# Altium schematic symbol library MainSchlib.SchLib: 236 symbols (part 1 of 2)
Pins are listed as number, name and electrical type; pins without a type are passive.

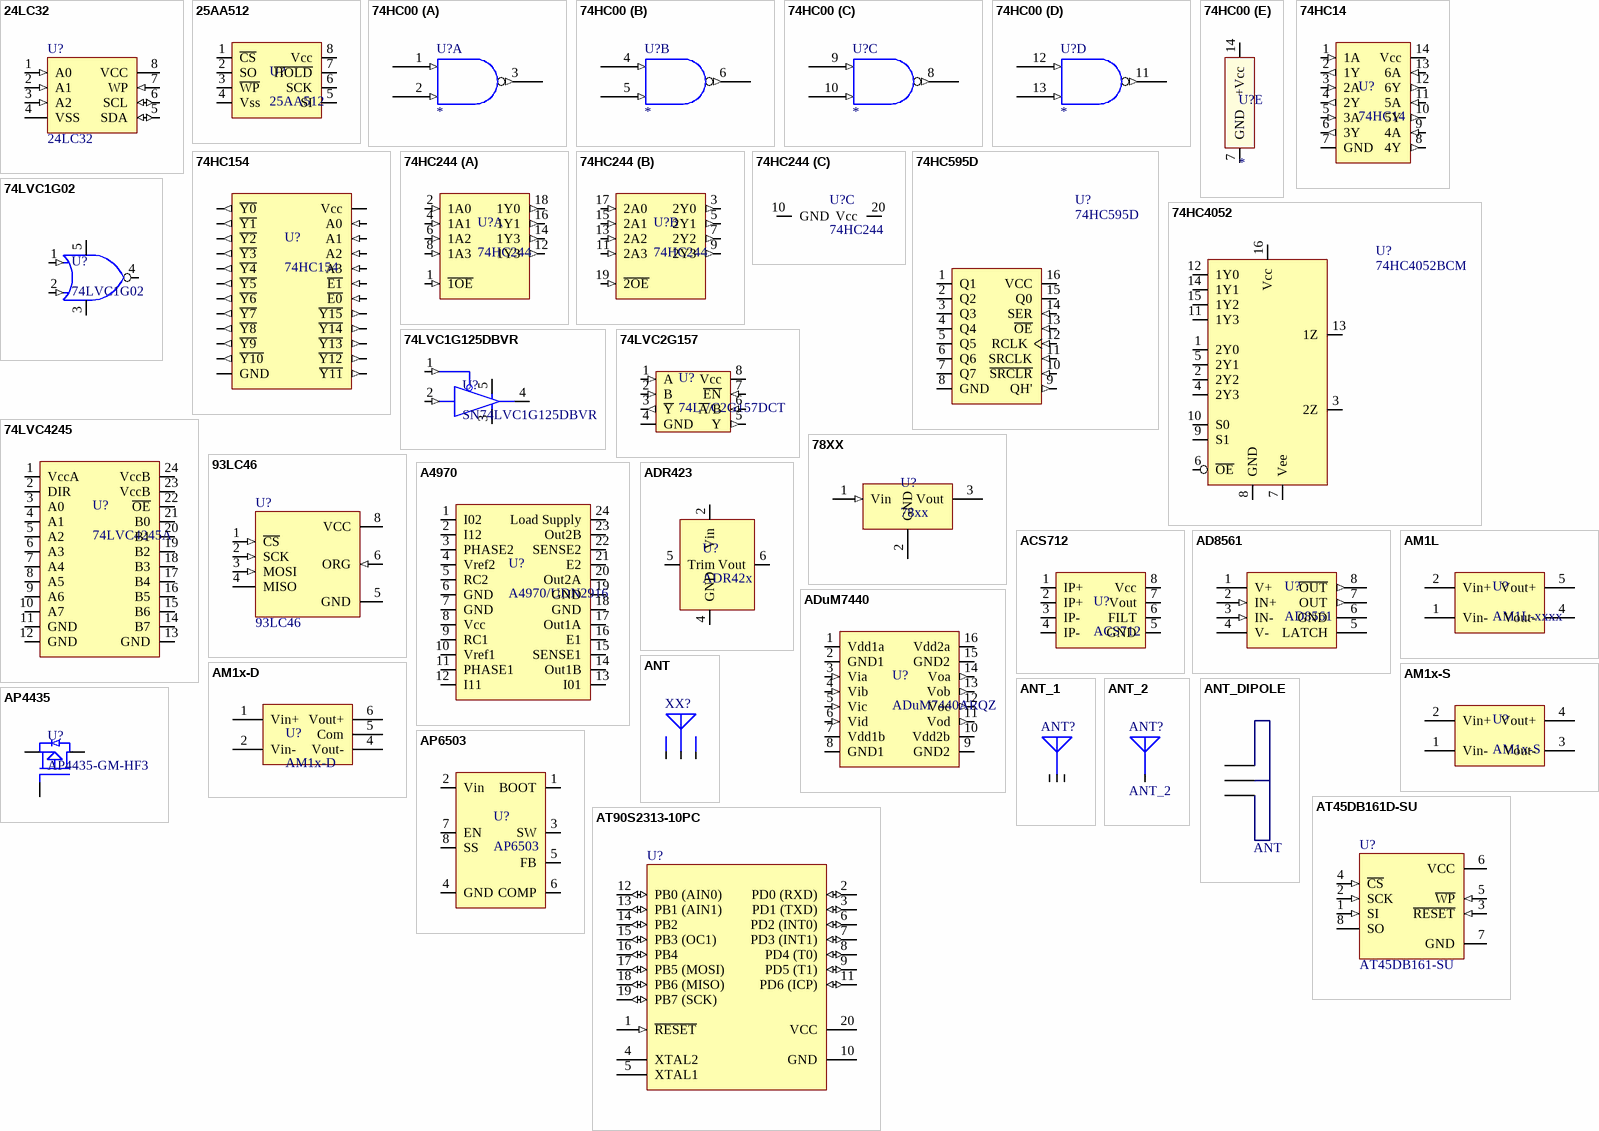
[diagram p0: symbols 24LC32 to AT90S2313-10PC]

## 24LC32
designator U?
footprint IC_DIP-8 (DIP8)
pins: 1 A0 (in), 2 A1 (in), 3 A2 (in), 4 VSS (power), 5 SDA (io), 6 SCL (io), 7 WP (in), 8 VCC (power)

## 25AA512
designator U?
512 Kbit SPI Bus Serial EEPROM
footprint IC_SO-8
pins: 1 ~{CS}, 2 SO, 3 ~{WP}, 4 Vss, 5 SI, 6 SCK, 7 ~{HOLD}, 8 Vcc

## 74HC00
designator U?
footprint IC_SO-14
footprint IC_DIP-14 (DIP14)
part A pins: 1 (in), 2 (in), 3 (out)
part B pins: 4 (in), 5 (in), 6 (out)
part C pins: 8 (out), 9 (in), 10 (in)
part D pins: 11 (out), 12 (in), 13 (in)
part E pins: 7 GND (power), 14 +Vcc (power) "VCC"

## 74HC14
designator U?
footprint IC_SO-14
footprint IC_DIP-14 (DIP14)
pins: 1 1A (in), 2 1Y (out), 3 2A (in), 4 2Y (out), 5 3A (in), 6 3Y (out), 7 GND (power), 8 4Y (out), 9 4A (in), 10 5Y (out), 11 5A (in), 12 6Y (out), 13 6A (in), 14 Vcc (power)

## 74HC154
designator U?
4-to-16 decoder/demultiplexer
footprint IC_SOIC-24 (for A4970)
footprint IC_DIP-24_600 (DIP24 socket)
pins: 1 ~{Y0} (out), 2 ~{Y1} (out), 3 ~{Y2} (out), 4 ~{Y3} (out), 5 ~{Y4} (out), 6 ~{Y5} (out), 7 ~{Y6} (out), 8 ~{Y7} (out), 9 ~{Y8} (out), 10 ~{Y9} (out), 11 ~{Y10} (out), 12 GND (power), 13 ~{Y11} (out), 14 ~{Y12} (out), 15 ~{Y13} (out), 16 ~{Y14} (out), 17 ~{Y15} (out), 18 ~{E0} (in), 19 ~{E1} (in), 20 A3 (in), 21 A2 (in), 22 A1 (in), 23 A0 (in), 24 Vcc

## 74HC244
designator U?
footprint IC_SO-20
footprint IC_DIP-20 (DIP20 socket)
part A pins: 1 ~{1OE} (in), 2 1A0 (in), 4 1A1 (in), 6 1A2 (in), 8 1A3 (in), 12 1Y3 (out), 14 1Y3 (out), 16 1Y1 (out), 18 1Y0 (out)
part B pins: 3 2Y0 (out), 5 2Y1 (out), 7 2Y2 (out), 9 2Y3 (out), 11 2A3 (in), 13 2A2 (in), 15 2A1 (in), 17 2A0 (in), 19 ~{2OE} (in)
part C pins: 10 GND (power), 20 Vcc (oe)

## 74HC595D
designator U?
8-Bit Shift Register with 3-State Output Registers; Text Field1: Power pins are hidden; Text Field2: Published 8-Jun-2000
footprint IC_DIP-16 (DIP16)
footprint IC_SO-16
pins: 1 Q1 (hiz), 2 Q2 (hiz), 3 Q3 (hiz), 4 Q4 (hiz), 5 Q5 (hiz), 6 Q6 (hiz), 7 Q7 (hiz), 8 GND (power), 9 QH' (out), 10 ~{SRCLR} (in), 11 SRCLK (in), 12 RCLK (in), 13 ~{OE} (in), 14 SER (in), 15 Q0 (hiz), 16 VCC (power)

## 74HC4052
designator U?, comment 74HC4052BCM
footprint IC_SO-16
footprint IC_DIP-16 (DIP16)
pins: 1 2Y0, 2 2Y2, 3 2Z, 4 2Y3, 5 2Y1, 6 ~{OE}, 7 Vee, 8 GND, 9 S1, 10 S0, 11 1Y3, 12 1Y0, 13 1Z, 14 1Y1, 15 1Y2, 16 Vcc

## 74LVC1G02
designator U?
footprint IC_SOT353-1 (5-pin, for 74LVC1G02)
pins: 1 (in), 2 (in), 3 GND, 4, 5 Vcc

## 74LVC1G125DBVR
designator U?, comment SN74LVC1G125DBVR
Single Buffer/Line driver
footprint IC_SOT23-5 (for MCP1802)
pins: 1 ~{OE} (in), 2 IN (in), 3 GND, 4 OUT, 5 Vcc

## 74LVC2G157
designator U?, comment 74LVC2G157DCT
footprint IC_SSOP8 (SSOP8)
pins: 1 A (in), 2 B (in), 3 ~{Y} (out), 4 GND (power), 5 Y (out), 6 ~{A}/B (in), 7 ~{EN} (in), 8 Vcc (power)

## 74LVC4245
designator U?, comment 74LVC4245A
octal dual-supply translating transceiver
footprint IC_SOIC-24 (for A4970)
pins: 1 VccA, 2 DIR, 3 A0, 4 A1, 5 A2, 6 A3, 7 A4, 8 A5, 9 A6, 10 A7, 11 GND, 12 GND, 13 GND, 14 B7, 15 B6, 16 B5, 17 B4, 18 B3, 19 B2, 20 B1, 21 B0, 22 ~{OE}, 23 VccB, 24 VccB

## 78XX
designator U?, comment 78xx
footprint TRANS_TO-220-HS_M
footprint IC_TO-92 (For 78Lxx)
pins: 1 Vin (in), 2 GND, 3 Vout (power)

## 93LC46
designator U?
footprint IC_SO-8
pins: 1 ~{CS} (in), 2 SCK (in), 3 MOSI (in), 4 MISO (hiz), 5 GND (power), 6 ORG (in), 8 VCC (power)

## A4970
designator U?, comment A4970/UDN2916
footprint IC_SOIC-24 (for A4970)
pins: 1 I02, 2 I12, 3 PHASE2, 4 Vref2, 5 RC2, 6 GND, 7 GND, 8 Vcc, 9 RC1, 10 Vref1, 11 PHASE1, 12 I11, 13 I01, 14 Out1B, 15 SENSE1, 16 E1, 17 Out1A, 18 GND, 19 GND, 20 Out2A, 21 E2, 22 SENSE2, 23 Out2B, 24 Load Supply

## ACS712
designator U?
Hall-effect current sensor
footprint IC_SO-8
pins: 1 IP+, 2 IP+, 3 IP-, 4 IP-, 5 GND, 6 FILT, 7 Vout, 8 Vcc

## AD8561
designator U?
footprint IC_SO-8
pins: 1 V+, 2 IN+ (in), 3 IN- (in), 4 V- (power), 5 LATCH, 6 GND (power), 7 OUT (out), 8 ~{OUT} (out)

## ADR423
designator U?, comment ADR42x
Precision voltage reference
footprint IC_SO-8
pins: 2 Vin, 4 GND, 5 Trim, 6 Vout

## ADuM7440
designator U?, comment ADuM7440ARQZ
footprint IC_QSOP-16 (For ADuM7440)
pins: 1 Vdd1a (power), 2 GND1 (power), 3 Via (in), 4 Vib (in), 5 Vic (in), 6 Vid (in), 7 Vdd1b (power), 8 GND1 (power), 9 GND2 (power), 10 Vdd2b (power), 11 Vod (out), 12 Voc (out), 13 Vob (out), 14 Voa (out), 15 GND2 (power), 16 Vdd2a (power)

## AM1L
designator U?, comment AM1L-xxxx
footprint DCDC_AM1L
pins: 1 Vin- (power), 2 Vin+ (power), 4 Vout- (power), 5 Vout+ (power)

## AM1x-D
designator U?
footprint DCDC_AM1D-D (Aimtec AM1x-D and AM2x-D)
pins: 1 Vin+ (power), 2 Vin- (power), 4 Vout- (power), 5 Com (power), 6 Vout+ (power)

## AM1x-S
designator U?
footprint DCDC_AM1S (For AM1S DC/DC)
pins: 1 Vin- (power), 2 Vin+ (power), 3 Vout- (power), 4 Vout+ (power)

## ANT
designator XX?
footprint ANT_FP (Model Description)
footprint ANT_FP_SOLDER_28mil
footprint Model Name (Footprint not found)
footprint CON_SMA_ANGLE (Comet: SMA F R/A PCB)
pins: 1 ANT, 2 GND, 3 GND2

## ANT_1
designator ANT?
footprint PCB_ANTENNA_MRF24J40 (PCB Inverted-F antenna)
footprint ANT_PCB_MRF24J40 (PCB Inverted-F antenna)
pins: 1 ANT, 2 ANT, 3 ANT

## ANT_2
designator ANT?
footprint MISC_PAD-36/65
footprint ANT_MRF24J40MA
pins: 1 ANT

## ANT_DIPOLE
designator ANT  (value not drawn)
Folded dipole antanna for CC2420
footprint ANT_PCB_DIPOLE (for CC2420)
pins: 1, 2, 3

## AP4435
designator U?, comment AP4435-GM-HF3
P-Channel enchanced MOSFET
footprint IC_SO-8
pins: 1 S, 2 S, 3 S, 4 G, 5 D, 6 D, 7 D, 8 D

## AP6503
designator U?
Buck Converter - RT8250
footprint IC_SO-8-EP
pins: 1 BOOT, 2 Vin, 3 SW, 4 GND, 5 FB, 6 COMP, 7 EN, 8 SS

## AT45DB161D-SU
designator U?, comment AT45DB161-SU
footprint IC_SO-8X
pins: 1 SI (in), 2 SCK (in), 3 ~{RESET} (in), 4 ~{CS} (in), 5 ~{WP} (in), 6 VCC (power), 7 GND (power), 8 SO (hiz)

## AT90S2313-10PC
designator U?
8-Bit AVR Microcontroller with 2K Bytes of In-System Programmable Flash Memory; Published: 17-Sep-2003; LatestRevisionDate: 04-Mar-2005; LatestRevisionNote: Stylized 3D Model Added.; DatasheetVersion: 0839I-AVR-06/02; PackageVersion: Aug-1999; PackageReference: 20P3; Publisher: Altium Limited; PackageDescription: DIP; 20 Leads; Row Spacing 7.62 mm; Pitch 2.54 mm; Code_JEDEC: MS-001-AD; ComponentLink1Description: Manufacturer Link; ComponentLink1URL: http://www.atmel.com; ComponentLink2Description: Datasheet; ComponentLink2URL: http://www.atmel.com/dyn/resources/prod_documents/doc0839.pdf
footprint IC_DIP-20 (DIP20 socket)
pins: 1 ~{RESET} (in), 2 PD0 (RXD) (io), 3 PD1 (TXD) (io), 4 XTAL2, 5 XTAL1, 6 PD2 (INT0) (io), 7 PD3 (INT1) (io), 8 PD4 (T0) (io), 9 PD5 (T1) (io), 10 GND (power), 11 PD6 (ICP) (io), 12 PB0 (AIN0) (io), 13 PB1 (AIN1) (io), 14 PB2 (io), 15 PB3 (OC1) (io), 16 PB4 (io), 17 PB5 (MOSI) (io), 18 PB6 (MISO) (io), 19 PB7 (SCK) (io), 20 VCC (power)

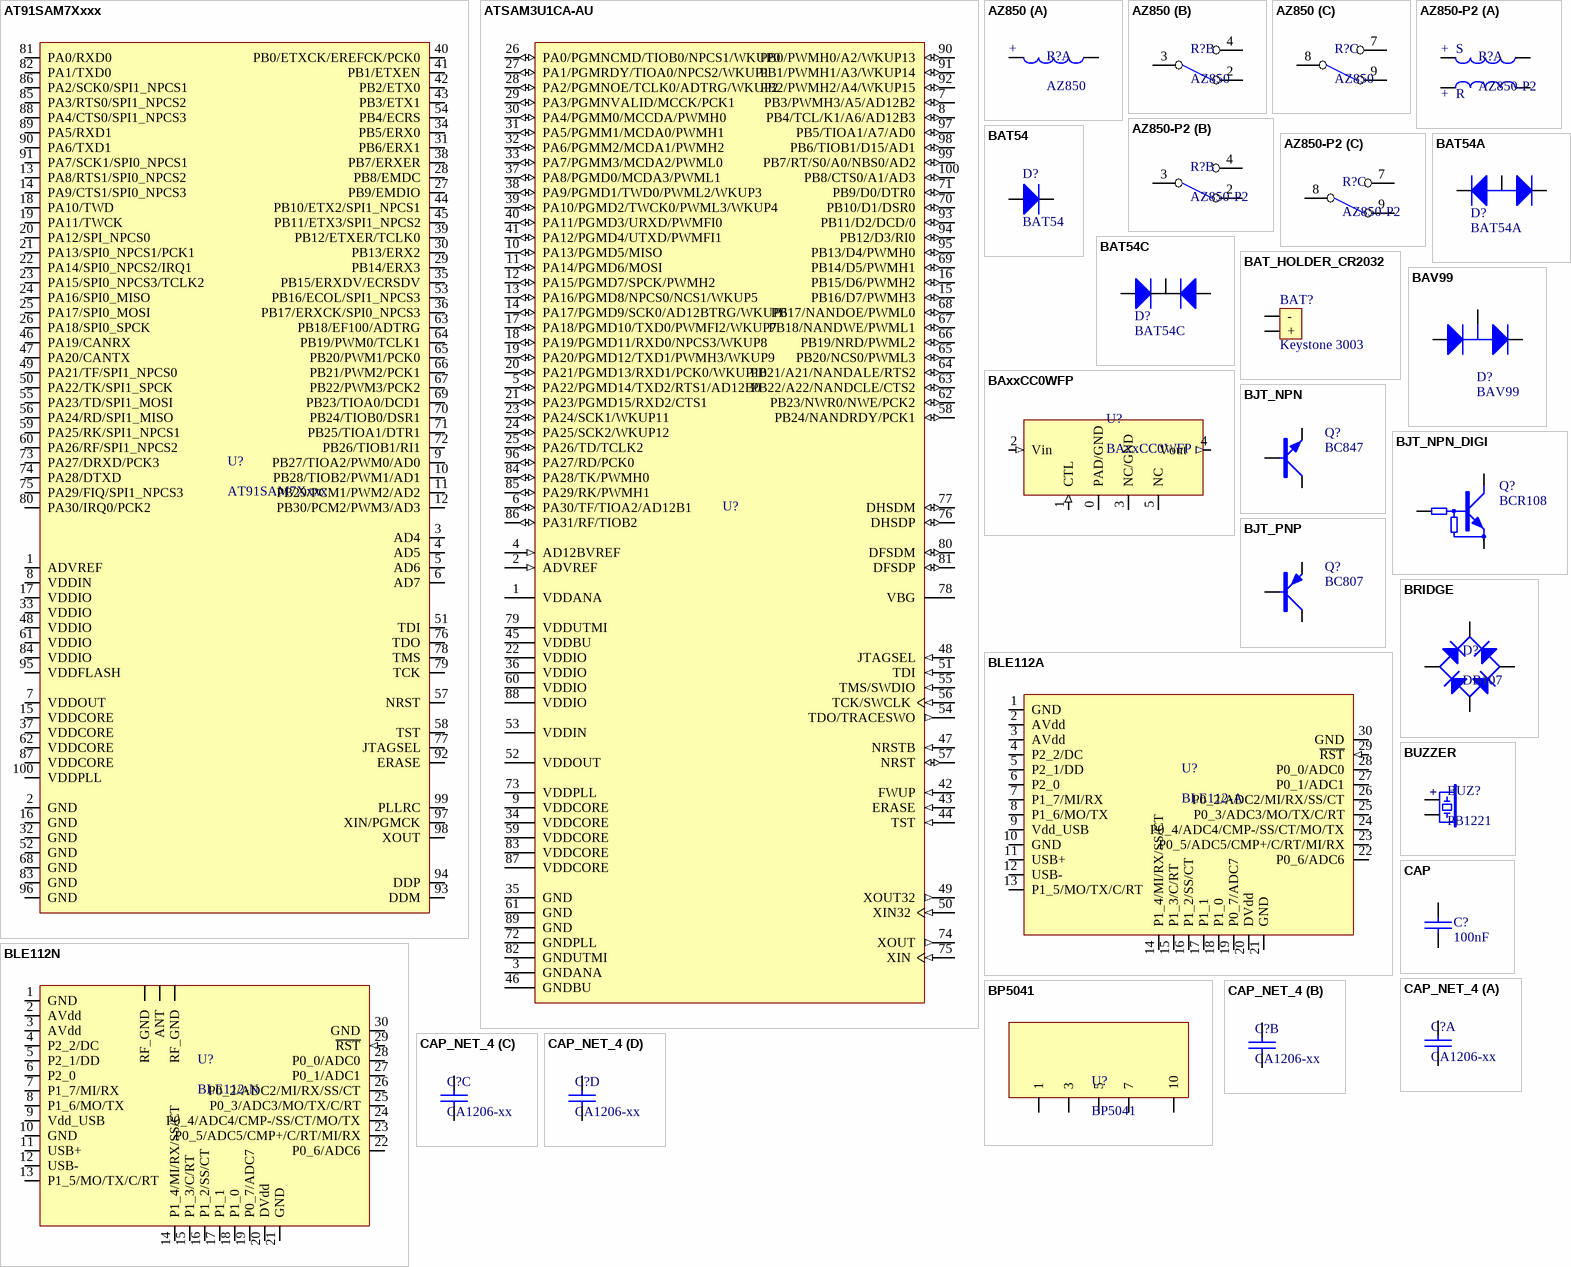
[diagram p1: symbols AT91SAM7Xxxx to CAP_NET_4]

## AT91SAM7Xxxx
designator U?
32-bit ARM7 MUC
footprint IC_LQFP-100 (DM9000/AT91SAM7X)
pins: 1 ADVREF (power), 2 GND (power), 3 AD4 (power), 4 AD5 (power), 5 AD6 (power), 6 AD7 (power), 7 VDDOUT (power), 8 VDDIN (power), 9 PB27/TIOA2/PWM0/AD0 (power), 10 PB28/TIOB2/PWM1/AD1 (power), 11 PB29/PCM1/PWM2/AD2 (power), 12 PB30/PCM2/PWM3/AD3 (power), 13 PA8/RTS1/SPI0_NPCS2 (power), 14 PA9/CTS1/SPI0_NPCS3 (power), 15 VDDCORE (power), 16 GND (power), 17 VDDIO (power), 18 PA10/TWD (power), 19 PA11/TWCK (power), 20 PA12/SPI_NPCS0 (power), 21 PA13/SPI0_NPCS1/PCK1 (power), 22 PA14/SPI0_NPCS2/IRQ1 (power), 23 PA15/SPI0_NPCS3/TCLK2 (power), 24 PA16/SPI0_MISO (power), 25 PA17/SPI0_MOSI (power), 26 PA18/SPI0_SPCK (power), 27 PB9/EMDIO (power), 28 PB8/EMDC (power), 29 PB14/ERX3 (power), 30 PB13/ERX2 (power), 31 PB6/ERX1 (power), 32 GND (power), 33 VDDIO (power), 34 PB5/ERX0 (power), 35 PB15/ERXDV/ECRSDV (power), 36 PB17/ERXCK/SPI0_NPCS3 (power), 37 VDDCORE (power), 38 PB7/ERXER (power), 39 PB12/ETXER/TCLK0 (power), 40 PB0/ETXCK/EREFCK/PCK0 (power), 41 PB1/ETXEN (power), 42 PB2/ETX0 (power), 43 PB3/ETX1 (power), 44 PB10/ETX2/SPI1_NPCS1 (power), 45 PB11/ETX3/SPI1_NPCS2 (power), 46 PA19/CANRX (power), 47 PA20/CANTX (power), 48 VDDIO (power), 49 PA21/TF/SPI1_NPCS0 (power), 50 PA22/TK/SPI1_SPCK (power), 51 TDI (power), 52 GND (power), 53 PB16/ECOL/SPI1_NPCS3 (power), 54 PB4/ECRS (power), 55 PA23/TD/SPI1_MOSI (power), 56 PA24/RD/SPI1_MISO (power), 57 NRST (power), 58 TST (power), 59 PA25/RK/SPI1_NPCS1 (power), 60 PA26/RF/SPI1_NPCS2 (power), 61 VDDIO (power), 62 VDDCORE (power), 63 PB18/EF100/ADTRG (power), 64 PB19/PWM0/TCLK1 (power), 65 PB20/PWM1/PCK0 (power), 66 PB21/PWM2/PCK1 (power), 67 PB22/PWM3/PCK2 (power), 68 GND (power), 69 PB23/TIOA0/DCD1 (power), 70 PB24/TIOB0/DSR1 (power), 71 PB25/TIOA1/DTR1 (power), 72 PB26/TIOB1/RI1 (power), 73 PA27/DRXD/PCK3 (power), 74 PA28/DTXD (power), 75 PA29/FIQ/SPI1_NPCS3 (power), 76 TDO (power), 77 JTAGSEL (power), 78 TMS (power), 79 TCK (power), 80 PA30/IRQ0/PCK2 (power), 81 PA0/RXD0 (power), 82 PA1/TXD0 (power), 83 GND (power), 84 VDDIO (power), 85 PA3/RTS0/SPI1_NPCS2 (power), 86 PA2/SCK0/SPI1_NPCS1 (power), 87 VDDCORE (power), 88 PA4/CTS0/SPI1_NPCS3 (power), 89 PA5/RXD1 (power), 90 PA6/TXD1 (power), 91 PA7/SCK1/SPI0_NPCS1 (power), 92 ERASE (power), 93 DDM (power), 94 DDP (power), 95 VDDFLASH (power), 96 GND (power), 97 XIN/PGMCK (power), 98 XOUT (power), 99 PLLRC (power), 100 VDDPLL (power)

## ATSAM3U1CA-AU
designator U?
AT91 ARM Cortex-M3 32-bit Microcontroller, 64KB Flash, 20KB SRAM, 57 User I/Os, 3USARTs, 100-Pin LQFP, Industrial Grade (-40°C to 85°C), Pb-Free; Published: 20-Sep-2010; DatasheetVersion: revC, Apr-2010; PackageVersion: Apr-2006; PackageReference: LQFP100; Publisher: Altium Limited; PackageDescription: 100-Pin Thin Quad Flat Pack 0.5 mm Pitch; Supplier 1: Digi-Key; Supplier Part Number 1: ATSAM3U1CA-AU-ND; Supplier 2: Mouser; Supplier Part Number 2: 556-ATSAM3U1CA-AU; Code_JEDEC: MS-026-BED; ComponentLink1Description: Manufacturer Link; ComponentLink1URL: http://www.atmel.com/products/AT91/default.asp?; ComponentLink2Description: SAM3U Series Datasheet; ComponentLink2URL: http://www.atmel.com/dyn/resources/prod_documents/doc6430.pdf; ComponentLink3Description: SAM3U Series Summary; ComponentLink3URL: http://www.atmel.com/dyn/resources/prod_documents/6430s.pdf; ComponentLink4Description: Atmel.com Home; ComponentLink4URL: http://www.atmel.com
footprint IC_LQFP-100 (DM9000/AT91SAM7X)
pins: 1 VDDANA (power), 2 ADVREF (in), 3 GNDANA (power), 4 AD12BVREF (in), 5 PA22/PGMD14/TXD2/RTS1/AD12B0 (io), 6 PA30/TF/TIOA2/AD12B1 (io), 7 PB3/PWMH3/A5/AD12B2 (io), 8 PB4/TCL/K1/A6/AD12B3 (io), 9 VDDCORE (power), 10 PA13/PGMD5/MISO (io), 11 PA14/PGMD6/MOSI (io), 12 PA15/PGMD7/SPCK/PWMH2 (io), 13 PA16/PGMD8/NPCS0/NCS1/WKUP5 (io), 14 PA17/PGMD9/SCK0/AD12BTRG/WKUP6 (io), 15 PB16/D7/PWMH3 (io), 16 PB15/D6/PWMH2 (io), 17 PA18/PGMD10/TXD0/PWMFI2/WKUP7 (io), 18 PA19/PGMD11/RXD0/NPCS3/WKUP8 (io), 19 PA20/PGMD12/TXD1/PWMH3/WKUP9 (io), 20 PA21/PGMD13/RXD1/PCK0/WKUP10 (io), 21 PA23/PGMD15/RXD2/CTS1 (io), 22 VDDIO (power), 23 PA24/SCK1/WKUP11 (io), 24 PA25/SCK2/WKUP12 (io), 25 PA26/TD/TCLK2 (io), 26 PA0/PGMNCMD/TIOB0/NPCS1/WKUP0 (io), 27 PA1/PGMRDY/TIOA0/NPCS2/WKUP1 (io), 28 PA2/PGMNOE/TCLK0/ADTRG/WKUP2 (io), 29 PA3/PGMNVALID/MCCK/PCK1 (io), 30 PA4/PGMM0/MCCDA/PWMH0 (io), 31 PA5/PGMM1/MCDA0/PWMH1 (io), 32 PA6/PGMM2/MCDA1/PWMH2 (io), 33 PA7/PGMM3/MCDA2/PWML0 (io), 34 VDDCORE (power), 35 GND (power), 36 VDDIO (power), 37 PA8/PGMD0/MCDA3/PWML1 (io), 38 PA9/PGMD1/TWD0/PWML2/WKUP3 (io), 39 PA10/PGMD2/TWCK0/PWML3/WKUP4 (io), 40 PA11/PGMD3/URXD/PWMFI0 (io), 41 PA12/PGMD4/UTXD/PWMFI1 (io), 42 FWUP (in), 43 ERASE (in), 44 TST (in), 45 VDDBU (power), 46 GNDBU (power), 47 NRSTB (in), 48 JTAGSEL (in), 49 XOUT32 (out), 50 XIN32 (in), 51 TDI (in), 52 VDDOUT (power), 53 VDDIN (power), 54 TDO/TRACESWO (out), 55 TMS/SWDIO (in), 56 TCK/SWCLK (in), 57 NRST (io), 58 PB24/NANDRDY/PCK1 (io), 59 VDDCORE (power), 60 VDDIO (power), 61 GND (power), 62 PB23/NWR0/NWE/PCK2 (io), 63 PB22/A22/NANDCLE/CTS2 (io), 64 PB21/A21/NANDALE/RTS2 (io), 65 PB20/NCS0/PWML3 (io), 66 PB19/NRD/PWML2 (io), 67 PB18/NANDWE/PWML1 (io), 68 PB17/NANDOE/PWML0 (io), 69 PB14/D5/PWMH1 (io), 70 PB10/D1/DSR0 (io), 71 PB9/D0/DTR0 (io), 72 GNDPLL (power), 73 VDDPLL (power), 74 XOUT (out), 75 XIN (in), 76 DHSDP (io), 77 DHSDM (io), 78 VBG, 79 VDDUTMI (power), 80 DFSDM (io), 81 DFSDP (io), 82 GNDUTMI (power), 83 VDDCORE (power), 84 PA28/TK/PWMH0 (io), 85 PA29/RK/PWMH1 (io), 86 PA31/RF/TIOB2 (io), 87 VDDCORE (power), 88 VDDIO (power), 89 GND (power), 90 PB0/PWMH0/A2/WKUP13 (io), 91 PB1/PWMH1/A3/WKUP14 (io), 92 PB2/PWMH2/A4/WKUP15 (io), 93 PB11/D2/DCD/0 (io), 94 PB12/D3/RI0 (io), 95 PB13/D4/PWMH0 (io), 96 PA27/RD/PCK0 (io), 97 PB5/TIOA1/A7/AD0 (io), 98 PB6/TIOB1/D15/AD1 (io), 99 PB7/RT/S0/A0/NBS0/AD2 (io), 100 PB8/CTS0/A1/AD3 (io)

## AZ850
designator R?
bi-stable relay
footprint RELAY_AZ850 (AZ850 (and others) relay)
part A pins: 1, 10
part B pins: 2, 3, 4
part C pins: 7, 8, 9
part A text: +

## AZ850-P2
designator R?
bi-stable relay
footprint RELAY_AZ850 (AZ850 (and others) relay)
part A pins: 1, 5, 6, 10
part B pins: 2, 3, 4
part C pins: 7, 8, 9
part A text: +; S; R

## BAT54
designator D?
SOT23 Silicon Planar High-Speed Switching Series Diode Pair
footprint TRANS_SOT-23
pins: 1 A, 3 C

## BAT54A
designator D?
SOT23 Silicon Planar High-Speed Switching Series Diode Pair; Manufacturer: Zetex; Class: Discrete; SubClass: Diode - Switching; Published: 8/06/2000; Publisher: Altium Hobart Technology Centre
footprint TRANS_SOT-23
pins: 1 C1, 2 C2, 3 A

## BAT54C
designator D?
SOT23 Silicon Planar High-Speed Switching Series Diode Pair
footprint TRANS_SOT-23
pins: 1 A1, 2 A2, 3 C

## BAT_HOLDER_CR2032
designator BAT?, comment Keystone 3003
Battery holder
footprint MISC_Keystone3003 (Holder for a CR2032)
pins: 1 - (power), 2 + (power)

## BAV99
designator D?
SOT23 Silicon Planar High-Speed Switching Series Diode Pair; Manufacturer: Zetex; Class: Discrete; SubClass: Diode - Switching; Published: 8/06/2000; Publisher: Altium Hobart Technology Centre
footprint TRANS_SOT-23
pins: 1 A, 2 K, 3 C

## BAxxCC0WFP
designator U?
ROHM LDO
footprint IC_TO-252-5
pins: 0 PAD/GND, 1 CTL (in), 2 Vin (in), 3 NC/GND, 4 Vout (out), 5 NC

## BJT_NPN
designator Q?, comment BC847
NPN Transistor
footprint TRANS_SOT-23
footprint TRANS_SOT223 (SOT223 - transistor package)
pins: 1 B, 2 E, 3 C

## BJT_NPN_DIGI
designator Q?, comment BCR108
NPN Digital Transistor
footprint TRANS_SOT-23
pins: 1 B, 2 E, 3 C

## BJT_PNP
designator Q?, comment BC807
PNP Transistor
footprint TRANS_SOT-23
footprint TRANS_SOT223 (SOT223 - transistor package)
pins: 1 B, 2 E, 3 C

## BLE112A
designator U?, comment BLE112-A
Bluetooth module
footprint MISC_BLE112A (Bluetooth module)
pins: 1 GND (power), 2 AVdd (power), 3 AVdd (power), 4 P2_2/DC (io), 5 P2_1/DD (io), 6 P2_0 (io), 7 P1_7/MI/RX (io), 8 P1_6/MO/TX (io), 9 Vdd_USB (power), 10 GND (power), 11 USB+, 12 USB-, 13 P1_5/MO/TX/C/RT (io), 14 P1_4/MI/RX/SS/CT (io), 15 P1_3/C/RT (io), 16 P1_2/SS/CT (io), 17 P1_1 (io), 18 P1_0 (io), 19 P0_7/ADC7 (io), 20 DVdd (power), 21 GND (power), 22 P0_6/ADC6 (io), 23 P0_5/ADC5/CMP+/C/RT/MI/RX (io), 24 P0_4/ADC4/CMP-/SS/CT/MO/TX (io), 25 P0_3/ADC3/MO/TX/C/RT (io), 26 P0_2/ADC2/MI/RX/SS/CT (io), 27 P0_1/ADC1 (io), 28 P0_0/ADC0 (io), 29 ~{RST} (in), 30 GND (power)

## BLE112N
designator U?, comment BLE112-N
Bluetooth module
footprint MISC_BLE112N (Bluetooth module)
pins: 1 GND (power), 2 AVdd (power), 3 AVdd (power), 4 P2_2/DC (io), 5 P2_1/DD (io), 6 P2_0 (io), 7 P1_7/MI/RX (io), 8 P1_6/MO/TX (io), 9 Vdd_USB (power), 10 GND (power), 11 USB+, 12 USB-, 13 P1_5/MO/TX/C/RT (io), 14 P1_4/MI/RX/SS/CT (io), 15 P1_3/C/RT (io), 16 P1_2/SS/CT (io), 17 P1_1 (io), 18 P1_0 (io), 19 P0_7/ADC7 (io), 20 DVdd (power), 21 GND (power), 22 P0_6/ADC6 (io), 23 P0_5/ADC5/CMP+/C/RT/MI/RX (io), 24 P0_4/ADC4/CMP-/SS/CT/MO/TX (io), 25 P0_3/ADC3/MO/TX/C/RT (io), 26 P0_2/ADC2/MI/RX/SS/CT (io), 27 P0_1/ADC1 (io), 28 P0_0/ADC0 (io), 29 ~{RST} (in), 30 GND (power), 31 ANT, 32 RF_GND (power), 33 RF_GND (power)

## BP5041
designator U?
ROHM non-isolated AC/DC converter
footprint DCDC_SIP10 (for BP504x series AC/DC converters)
pins: 1, 3, 5, 7, 10

## BRIDGE
designator D?, comment DB107
footprint DIODE_BRIDGE_PTH
footprint DIODE_BRIDGE_MBS
pins: 1 AC1, 2 AC2, 3 P, 4 M

## BUZZER
designator BUZ?, comment PB1221
Buzzer
footprint MISC_PB1221 (Buzzer)
pins: 1, 2
text: +

## CAP
designator C?, comment 100nF
Capacitor
footprint 0805_1
pins: 1, 2

## CAP_NET_4
designator C?, comment CA1206-xx
footprint RES_RN_1206-4x0603
part A pins: 1, 8
part B pins: 2, 7
part C pins: 3, 6
part D pins: 4, 5

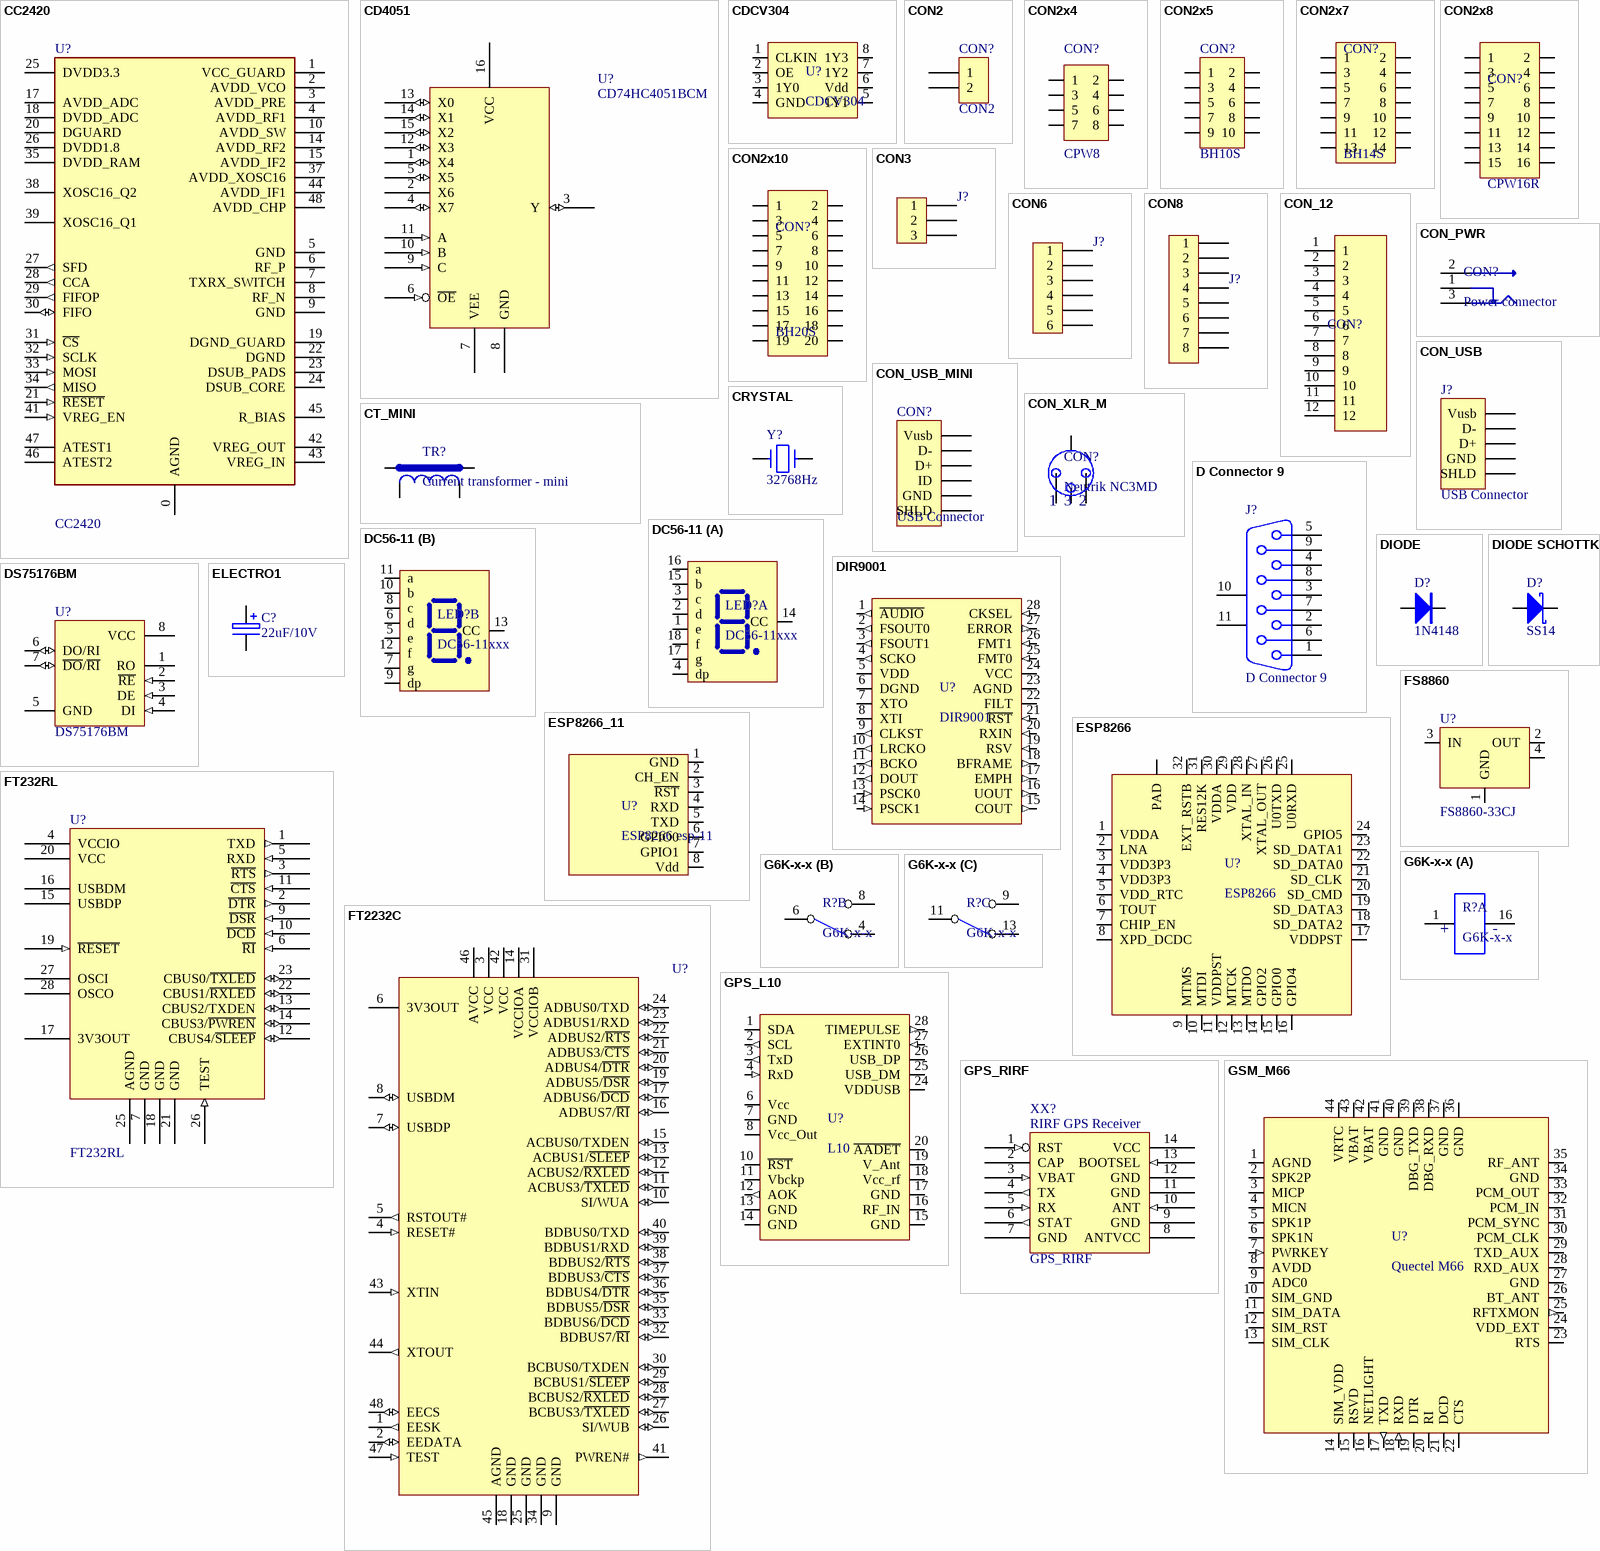
[diagram p2: symbols CC2420 to GSM_M66]

## CC2420
designator U?
ZigBee transceiver
footprint IC_QLP48 (for CC2420)
pins: 0 AGND (power), 1 VCC_GUARD (power), 2 AVDD_VCO (power), 3 AVDD_PRE (power), 4 AVDD_RF1 (power), 5 GND (power), 6 RF_P, 7 TXRX_SWITCH (power), 8 RF_N, 9 GND (power), 10 AVDD_SW (power), 14 AVDD_RF2 (power), 15 AVDD_IF2 (power), 17 AVDD_ADC (power), 18 DVDD_ADC (power), 19 DGND_GUARD (power), 20 DGUARD (power), 21 ~{RESET} (in), 22 DGND (power), 23 DSUB_PADS (power), 24 DSUB_CORE (power), 25 DVDD3.3 (power), 26 DVDD1.8 (power), 27 SFD (out), 28 CCA (out), 29 FIFOP (out), 30 FIFO (io), 31 ~{CS} (in), 32 SCLK (in), 33 MOSI (in), 34 MISO (out), 35 DVDD_RAM (power), 37 AVDD_XOSC16 (power), 38 XOSC16_Q2, 39 XOSC16_Q1, 41 VREG_EN (in), 42 VREG_OUT (power), 43 VREG_IN (power), 44 AVDD_IF1 (power), 45 R_BIAS, 46 ATEST2, 47 ATEST1, 48 AVDD_CHP (power)

## CD4051
designator U?, comment CD74HC4051BCM
footprint IC_SO-16
footprint IC_DIP-16 (DIP16)
pins: 1 X4 (io), 2 X6, 3 Y (io), 4 X7 (io), 5 X5 (io), 6 ~{OE} (in), 7 VEE, 8 GND (power), 9 C (in), 10 B (in), 11 A (in), 12 X3 (io), 13 X0 (io), 14 X1 (io), 15 X2 (io), 16 VCC

## CDCV304
designator U?
Clock driver
footprint IC_TSSOP-8
pins: 1 CLKIN, 2 OE, 3 1Y0, 4 GND, 5 1Y1, 6 Vdd, 7 1Y2, 8 1Y3

## CON2
designator CON?
Connector
footprint CON_CW2S (2.50mm connector, PCB mount, mate with CU2)
footprint CON_WS02S (2.50mm connector, PCB mount, mate with HS2)
footprint CON_TOP_2P (Weidumuller - SL 5.08/2/180B)
footprint CON_TS501_2P
pins: 1, 2

## CON2x4
designator CON?, comment CPW8
footprint CON_CPW8R (CON_CPW)
pins: 1, 2, 3, 4, 5, 6, 7, 8

## CON2x5
designator CON?, comment BH10S
BH10S-side mounted
footprint CON_BH10S_EDGE (BH-10 mounted on the board edge)
footprint CON_BH10S (BH-10)
footprint CON_2x5_1.27 (HN2X17-1.27 SMD)
pins: 1, 2, 3, 4, 5, 6, 7, 8, 9, 10

## CON2x7
designator CON?, comment BH14S
footprint CON_BH14S (BH-14)
pins: 1, 2, 3, 4, 5, 6, 7, 8, 9, 10, 11, 12, 13, 14

## CON2x8
designator CON?, comment CPW16R
footprint CON_CPW16R (CON_CPW)
pins: 1, 2, 3, 4, 5, 6, 7, 8, 9, 10, 11, 12, 13, 14, 15, 16

## CON2x10
designator CON?, comment BH20S
footprint CON_BH20S
pins: 1, 2, 3, 4, 5, 6, 7, 8, 9, 10, 11, 12, 13, 14, 15, 16, 17, 18, 19, 20

## CON3
designator J?  (value not drawn)
Connector
footprint CON_TOP_3P (Weidumuller - SL 5.08/3/180B)
pins: 1, 2, 3

## CON6
designator J?  (value not drawn)
Connector
footprint JMP_JP6 (Jumper header, 6pin)
pins: 1, 2, 3, 4, 5, 6

## CON8
designator J?  (value not drawn)
Connector
footprint CON_Multicomp_ME050-3810_8 (Side-entry header with flanges)
pins: 1, 2, 3, 4, 5, 6, 7, 8

## CON_12
designator CON?, comment CON12  (value not drawn)
footprint CON_2x6-2mm-SMD
pins: 1, 2, 3, 4, 5, 6, 7, 8, 9, 10, 11, 12

## CON_PWR
designator CON?, comment Power connector
footprint CON_PWR_DS413
pins: 1, 2, 3

## CON_USB
designator J?, comment USB Connector
footprint CON_USB_B_SMD (USB type B SMD connector)
footprint CON_USB_B_PTH (USB type B PTH connector)
footprint CON_USB_A_PTH (USB A single socket)
pins: 1 Vusb, 2 D-, 3 D+, 4 GND, 5 SHLD

## CON_USB_MINI
designator CON?, comment USB Connector
footprint CON_USB_MINI
pins: 1 Vusb, 2 D-, 3 D+, 4 ID, 5 GND, 6 SHLD

## CON_XLR_M
designator CON?, comment Neutrik NC3MD
XLR connector, PCB mount
footprint CON_NEUTRIK_NC3FDxH (XLR connector for PCB mount - female)
footprint CON_NEUTRIK_NC3MDxH (XLR connector for PCB mount - male)
pins: 1, 2, 3, 4

## CRYSTAL
designator Y?, comment 32768Hz
Crystal
footprint XTAL_HC-49
footprint XTAL_32K_SMD
footprint XTAL_32K_PTH
pins: 1, 2

## CT_MINI
designator TR?, comment Current transformer - mini
footprint MISC_CTRAF (Current transformer)
pins: 1, 2, 3, 4

## D Connector 9
designator J?
Receptacle Assembly, 9 Position, Right Angle; Manufacturer: Generic Components; Positions: 9; Published: 15/06/2001; Publisher: Altium Hobart Technology Centre; Class: Connector; Orientation: Right Angle; Gender: Receptacle
footprint CON_DSUB1.385-2H9
pins: 1, 2, 3, 4, 5, 6, 7, 8, 9, 10 MH1, 11 MH2

## DC56-11
designator LED?, comment DC56-11xxx
Dual Common-cathode LED 7-segment indicator
footprint LED_Dx56-11 (dual 7-segment LED module)
part A pins: 1 e, 2 d, 3 c, 4 dp, 14 CC, 15 b, 16 a, 17 g, 18 f
part B pins: 5 e, 6 d, 7 g, 8 c, 9 dp, 10 b, 11 a, 12 f, 13 CC

## DIODE
designator D?, comment 1N4148
Diode
footprint DIODE_MiniMELF
footprint DIODE_D400 (Diode)
pins: 1 A, 2 K

## DIODE SCHOTTKY
designator D?, comment SS14
Schottky Diode
footprint DIODE_DO-214AC (low-current diode)
pins: 1 A, 2 K

## DIR9001
designator U?
S/PDIF receiver
footprint IC_SSOP28
pins: 1 ~{AUDIO} (out), 2 FSOUT0 (out), 3 FSOUT1 (out), 4 SCKO (out), 5 VDD (power), 6 DGND (power), 7 XTO, 8 XTI, 9 CLKST (out), 10 LRCKO (out), 11 BCKO (out), 12 DOUT (out), 13 PSCK0 (in), 14 PSCK1 (in), 15 COUT (out), 16 UOUT (out), 17 EMPH (out), 18 BFRAME (out), 19 RSV (in), 20 RXIN (in), 21 ~{RST} (in), 22 FILT, 23 AGND (power), 24 VCC (power), 25 FMT0 (in), 26 FMT1 (in), 27 ERROR (out), 28 CKSEL (in)

## DS75176BM
designator U?
Multipoint RS-485/RS-422 Transceiver; Manufacturer: National Semiconductor; Class: Interface; SubClass: Line Transceiver; Published: 15/04/2002; Publisher: Altium Hobart Technology Centre
footprint IC_SO-8
footprint IC_DIP-8 (DIP8)
pins: 1 RO (hiz), 2 ~{RE} (in), 3 DE (in), 4 DI (in), 5 GND (power), 6 DO/RI (io), 7 ~{DO}/~{RI} (io), 8 VCC (power)

## ELECTRO1
designator C?, comment 22uF/10V
Electrolytic Capacitor
footprint CAP_EC8x16 (1000uF/6.3V;1000uF/10V;1000uF/16V;470uF/25V;220uF/35V;100uF/50V;100uF/63V;33uF/100V;4.7uF/160V;3.3uF/200V;2.2uF/250V;1uF/400V;1uF/450V)
pins: 1, 2

## ESP8266
designator U?
ESP8266 WiFi chip
footprint IC_QFN32-5x5
pins: 0 PAD, 1 VDDA, 2 LNA, 3 VDD3P3, 4 VDD3P3, 5 VDD_RTC, 6 TOUT, 7 CHIP_EN, 8 XPD_DCDC, 9 MTMS, 10 MTDI, 11 VDDPST, 12 MTCK, 13 MTDO, 14 GPIO2, 15 GPIO0, 16 GPIO4, 17 VDDPST, 18 SD_DATA2, 19 SD_DATA3, 20 SD_CMD, 21 SD_CLK, 22 SD_DATA0, 23 SD_DATA1, 24 GPIO5, 25 U0RXD, 26 U0TXD, 27 XTAL_OUT, 28 XTAL_IN, 29 VDD, 30 VDDA, 31 RES12K, 32 EXT_RSTB

## ESP8266_11
designator U?, comment ESP8266 esp-11
wifi module
footprint MISC_ESP8266_11 (wifi module)
pins: 1 GND, 2 CH_EN, 3 ~{RST}, 4 RXD, 5 TXD, 6 GPIO0, 7 GPIO1, 8 Vdd

## FS8860
designator U?, comment FS8860-33CJ
footprint TRANS_SOT223 (SOT223 - transistor package)
pins: 1 GND, 2 OUT, 3 IN, 4

## FT232RL
designator U?
footprint IC_SSOP28
pins: 1 TXD (out), 2 ~{DTR} (out), 3 ~{RTS} (out), 4 VCCIO (power), 5 RXD (in), 6 ~{RI} (in), 7 GND (power), 9 ~{DSR} (in), 10 ~{DCD} (in), 11 ~{CTS} (in), 12 CBUS4/~{SLEEP} (io), 13 CBUS2/TXDEN (io), 14 CBUS3/~{PWREN} (io), 15 USBDP, 16 USBDM, 17 3V3OUT (power), 18 GND (power), 19 ~{RESET} (in), 20 VCC (power), 21 GND (power), 22 CBUS1/~{RXLED} (io), 23 CBUS0/~{TXLED} (io), 25 AGND (power), 26 TEST (in), 27 OSCI, 28 OSCO

## FT2232C
designator U?
Dual USB UART/FIFO Chip, LQFP-48; Published: 6-Oct-2005; LatestRevisionDate: 13-Apr-2006; LatestRevisionNote: IPC-7351 Footprint Added.; DatasheetVersion: ver 1.4, May-2005; PackageVersion: May-2005; PackageReference: LQFP-48; Publisher: Altium Limited; PackageDescription: 48-Pin Thin Quad Flat Pack 0.5 mm Pitch; ComponentLink1Description: Manufacturer Link; ComponentLink1URL: http://www.ftdichip.com/Products/FT2232C.htm; ComponentLink2Description: Datasheet; ComponentLink2URL: http://www.ftdichip.com/Documents/DataSheets/ds2232c_15.pdf
footprint IC_LQFP48 (for MC9S12C64)
footprint IC_LQFP-48_M (48-Pin Thin Quad Flat Pack 0.5 mm Pitch, IPC Low Density)
pins: 1 EESK (out), 2 EEDATA (io), 3 VCC (power), 4 RESET# (in), 5 RSTOUT# (out), 6 3V3OUT (power), 7 USBDP (io), 8 USBDM (io), 9 GND (power), 10 SI/WUA (io), 11 ACBUS3/~{TXLED} (io), 12 ACBUS2/~{RXLED} (io), 13 ACBUS1/~{SLEEP} (io), 14 VCCIOA (power), 15 ACBUS0/TXDEN (io), 16 ADBUS7/~{RI} (io), 17 ADBUS6/~{DCD} (io), 18 GND (power), 19 ADBUS5/~{DSR} (io), 20 ADBUS4/~{DTR} (io), 21 ADBUS3/~{CTS} (io), 22 ADBUS2/~{RTS} (io), 23 ADBUS1/RXD (io), 24 ADBUS0/TXD (io), 25 GND (power), 26 SI/WUB (io), 27 BCBUS3/~{TXLED} (io), 28 BCBUS2/~{RXLED} (io), 29 BCBUS1/~{SLEEP} (io), 30 BCBUS0/TXDEN (io), 31 VCCIOB (power), 32 BDBUS7/~{RI} (io), 33 BDBUS6/~{DCD} (io), 34 GND (power), 35 BDBUS5/~{DSR} (io), 36 BDBUS4/~{DTR} (io), 37 BDBUS3/~{CTS} (io), 38 BDBUS2/~{RTS} (io), 39 BDBUS1/RXD (io), 40 BDBUS0/TXD (io), 41 PWREN# (out), 42 VCC (power), 43 XTIN (in), 44 XTOUT (out), 45 AGND (power), 46 AVCC (power), 47 TEST (in), 48 EECS (io)

## G6K-x-x
designator R?
footprint RELAY_G6K_F (Omron G6K-2F)
part A pins: 1, 16
part B pins: 4, 6, 8
part C pins: 9, 11, 13
part A text: +; -

## GPS_L10
designator U?, comment L10
GPS module quectel L10
footprint MISC_GPS L10 (Quectel L10)
pins: 1 SDA (io), 2 SCL (out), 3 TxD (out), 4 RxD (in), 6 Vcc (power), 7 GND (power), 8 Vcc_Out (power), 10 ~{RST}, 11 Vbckp (power), 12 AOK (out), 13 GND, 14 GND, 15 GND (power), 16 RF_IN, 17 GND (power), 18 Vcc_rf (power), 19 V_Ant (power), 20 ~{AADET}, 24 VDDUSB (power), 25 USB_DM, 26 USB_DP, 27 EXTINT0 (in), 28 TIMEPULSE (out)

## GPS_RIRF
designator XX?
footprint MISC_RN201
pins: 1 RST (in), 2 CAP, 3 VBAT (in), 4 TX (out), 5 RX (in), 6 STAT (out), 7 GND (power), 8 ANTVCC (power), 9 GND (power), 10 ANT (in), 11 GND (power), 12 GND (power), 13 BOOTSEL (in), 14 VCC (power)
text: RIRF GPS Receiver

## GSM_M66
designator U?, comment Quectel M66
footprint GSM_M66 (Quectel M66 GSM Module)
pins: 1 AGND (power), 2 SPK2P, 3 MICP, 4 MICN, 5 SPK1P, 6 SPK1N, 7 PWRKEY (in), 8 AVDD (power), 9 ADC0, 10 SIM_GND (power), 11 SIM_DATA, 12 SIM_RST, 13 SIM_CLK, 14 SIM_VDD, 15 RSVD, 16 NETLIGHT, 17 TXD (out), 18 RXD (in), 19 DTR, 20 RI, 21 DCD, 22 CTS, 23 RTS, 24 VDD_EXT (power), 25 RFTXMON (out), 26 BT_ANT, 27 GND, 28 RXD_AUX, 29 TXD_AUX, 30 PCM_CLK, 31 PCM_SYNC, 32 PCM_IN, 33 PCM_OUT, 34 GND (power), 35 RF_ANT, 36 GND (power), 37 GND (power), 38 DBG_RXD, 39 DBG_TXD, 40 GND (power), 41 GND (power), 42 VBAT (power), 43 VBAT (power), 44 VRTC (power)

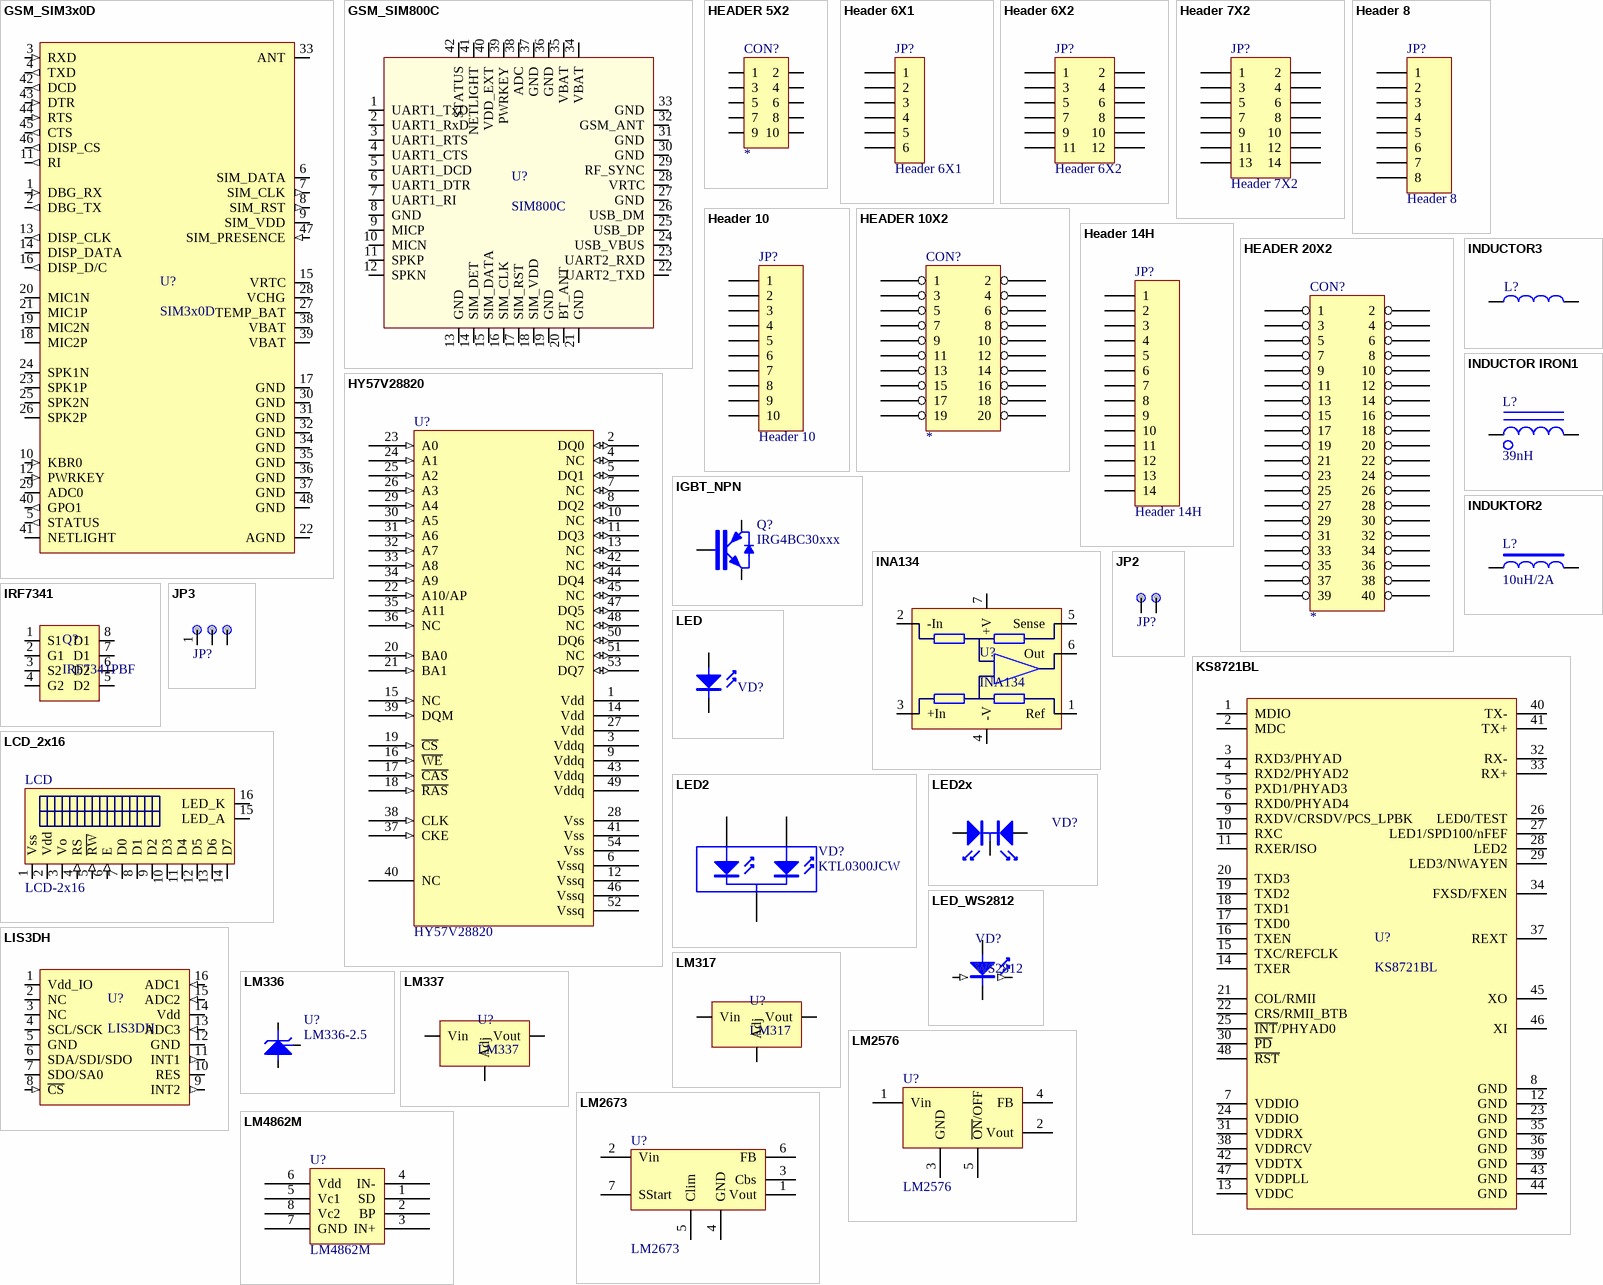
[diagram p3: symbols GSM_SIM3x0D to LM4862M]

## GSM_SIM3x0D
designator U?, comment SIM3x0D
SIMCOM GSM SIMx0D
footprint MISC_GSM_SIM3x0D (sim.com SIM300D/340D)
pins: 1 DBG_RX (in), 2 DBG_TX (out), 3 RXD (in), 4 TXD (out), 5 STATUS (out), 6 SIM_DATA (io), 7 SIM_CLK (out), 8 SIM_RST (out), 9 SIM_VDD, 10 KBR0 (in), 11 RI (out), 12 PWRKEY (in), 13 DISP_CLK (out), 14 DISP_DATA (io), 15 VRTC, 16 DISP_D/C (out), 17 GND (power), 18 MIC2P, 19 MIC2N, 20 MIC1N, 21 MIC1P, 22 AGND (power), 23 SPK1P, 24 SPK1N, 25 SPK2N, 26 SPK2P, 27 TEMP_BAT, 28 VCHG, 29 ADC0, 30 GND (power), 31 GND (power), 32 GND (power), 33 ANT, 34 GND (power), 35 GND (power), 36 GND (power), 37 GND (power), 38 VBAT (power), 39 VBAT (power), 40 GPO1 (out), 41 NETLIGHT, 42 DCD (out), 43 DTR (in), 44 RTS (in), 45 CTS (out), 46 DISP_CS (out), 47 SIM_PRESENCE (in), 48 GND (power)

## GSM_SIM800C
designator U?, comment SIM800C
Quad-band GSM Module
footprint MISC_GSM_SIM800C (Quad-band GSM module)
pins: 1 UART1_TxD, 2 UART1_RxD, 3 UART1_RTS, 4 UART1_CTS, 5 UART1_DCD, 6 UART1_DTR, 7 UART1_RI, 8 GND, 9 MICP, 10 MICN, 11 SPKP, 12 SPKN, 13 GND, 14 SIM_DET, 15 SIM_DATA, 16 SIM_CLK, 17 SIM_RST, 18 SIM_VDD, 19 GND, 20 BT_ANT, 21 GND, 22 UART2_TXD, 23 UART2_RXD, 24 USB_VBUS, 25 USB_DP, 26 USB_DM, 27 GND, 28 VRTC, 29 RF_SYNC, 30 GND, 31 GND, 32 GSM_ANT, 33 GND, 34 VBAT, 35 VBAT, 36 GND, 37 GND, 38 ADC, 39 PWRKEY, 40 VDD_EXT, 41 NETLIGHT, 42 STATUS

## HEADER 5X2
designator CON?
footprint CON_HDR2x5
pins: 1, 2, 3, 4, 5, 6, 7, 8, 9, 10

## Header 6X1
designator JP?
Header, 6-Pin, single row; Manufacturer: Generic Components; Class: Connector
footprint JMP_JP6 (Jumper header, 6pin)
pins: 1, 2, 3, 4, 5, 6

## Header 6X2
designator JP?
Header, 6-Pin, Dual row; Manufacturer: Generic Components; Class: Connector
footprint CON_HDR2X6 - 2mm
pins: 1, 2, 3, 4, 5, 6, 7, 8, 9, 10, 11, 12

## Header 7X2
designator JP?
Header, 6-Pin, Dual row; Manufacturer: Generic Components; Class: Connector
footprint CON_HDR2x7
pins: 1, 2, 3, 4, 5, 6, 7, 8, 9, 10, 11, 12, 13, 14

## Header 8
designator JP?
Header, 8-Pin; Manufacturer: Generic Components; Class: Connector
footprint CON_HDR1X8
pins: 1, 2, 3, 4, 5, 6, 7, 8

## Header 10
designator JP?
Header, 10-Pin; Manufacturer: Generic Components; Class: Connector
footprint CON_HDR1X10
pins: 1, 2, 3, 4, 5, 6, 7, 8, 9, 10

## HEADER 10X2
designator CON?
footprint CON_HDR2X10
pins: 1, 2, 3, 4, 5, 6, 7, 8, 9, 10, 11, 12, 13, 14, 15, 16, 17, 18, 19, 20

## Header 14H
designator JP?
Header, 14-Pin, Right Angle; Manufacturer: Generic Components; Class: Connector
footprint CON_HDR1X14H
pins: 1, 2, 3, 4, 5, 6, 7, 8, 9, 10, 11, 12, 13, 14

## HEADER 20X2
designator CON?
footprint CON40_PIN
pins: 1, 2, 3, 4, 5, 6, 7, 8, 9, 10, 11, 12, 13, 14, 15, 16, 17, 18, 19, 20, 21, 22, 23, 24, 25, 26, 27, 28, 29, 30, 31, 32, 33, 34, 35, 36, 37, 38, 39, 40

## HY57V28820
designator U?
SDRAM
footprint IC_TSOP54 (RAM :))
pins: 1 Vdd (power), 2 DQ0 (io), 3 Vddq (power), 4 NC (io), 5 DQ1 (io), 6 Vssq (power), 7 NC (io), 8 DQ2 (io), 9 Vddq (power), 10 NC (io), 11 DQ3 (io), 12 Vssq (power), 13 NC (io), 14 Vdd (power), 15 NC (in), 16 ~{WE} (in), 17 ~{CAS} (in), 18 ~{RAS} (in), 19 ~{CS} (in), 20 BA0 (in), 21 BA1 (in), 22 A10/AP (in), 23 A0 (in), 24 A1 (in), 25 A2 (in), 26 A3 (in), 27 Vdd (power), 28 Vss (power), 29 A4 (in), 30 A5 (in), 31 A6 (in), 32 A7 (in), 33 A8 (in), 34 A9 (in), 35 A11 (in), 36 NC (in), 37 CKE (in), 38 CLK (in), 39 DQM (in), 40 NC, 41 Vss (power), 42 NC (io), 43 Vddq (power), 44 DQ4 (io), 45 NC (io), 46 Vssq (power), 47 DQ5 (io), 48 NC (io), 49 Vddq (power), 50 DQ6 (io), 51 NC (io), 52 Vssq (power), 53 DQ7 (io), 54 Vss (power)

## IGBT_NPN
designator Q?, comment IRG4BC30xxx
NPN Transistor
footprint TRANS_TO-220-V
pins: 1 G, 2 C, 3 E

## INA134
designator U?
Differential line receiver
footprint IC_DIP-8 (DIP8)
pins: 1 Ref, 2 -In, 3 +In, 4 -V, 5 Sense, 6 Out, 7 +V

## INDUCTOR3
designator L?
footprint 0805_1
footprint IND_CW8A (inductor)
pins: 1, 2

## INDUCTOR IRON1
designator L?, comment 39nH
footprint 0805_1
pins: 1, 2

## INDUKTOR2
designator L?, comment 10uH/2A
footprint 0805_1
pins: 1, 2

## IRF7341
designator Q?, comment IRF7341PBF
footprint IC_SO-8
pins: 1 S1, 2 G1, 3 S2, 4 G2, 5 D2, 6 D2, 7 D1, 8 D1

## JP2
designator JP?, comment Jumper, 2pin  (value not drawn)
footprint JMP_JP2 (Jumper,2pin)
pins: 1, 2
1 alternate drawing of the same symbol

## JP3
designator JP?, comment Jumper, 3pin  (value not drawn)
footprint JMP_JP3 (Jumper,3pin)
pins: 1, 2, 3
1 alternate drawing of the same symbol

## KS8721BL
designator U?
Ethernet PHY
footprint IC_LQFP-48_M (48-Pin Thin Quad Flat Pack 0.5 mm Pitch, IPC Low Density)
pins: 1 MDIO, 2 MDC, 3 RXD3/PHYAD, 4 RXD2/PHYAD2, 5 PXD1/PHYAD3, 6 RXD0/PHYAD4, 7 VDDIO, 8 GND, 9 RXDV/CRSDV/PCS_LPBK, 10 RXC, 11 RXER/ISO, 12 GND, 13 VDDC, 14 TXER, 15 TXC/REFCLK, 16 TXEN, 17 TXD0, 18 TXD1, 19 TXD2, 20 TXD3, 21 COL/RMII, 22 CRS/RMII_BTB, 23 GND, 24 VDDIO, 25 ~{INT}/PHYAD0, 26 LED0/TEST, 27 LED1/SPD100/nFEF, 28 LED2, 29 LED3/NWAYEN, 30 ~{PD}, 31 VDDRX, 32 RX-, 33 RX+, 34 FXSD/FXEN, 35 GND, 36 GND, 37 REXT, 38 VDDRCV, 39 GND, 40 TX-, 41 TX+, 42 VDDTX, 43 GND, 44 GND, 45 XO, 46 XI, 47 VDDPLL, 48 ~{RST}

## LCD_2x16
designator LCD, comment LCD-2x16
footprint MISC_LCD_2x16 (LCD 2x16)
pins: 1 Vss (power), 2 Vdd (power), 3 Vo, 4 RS (in), 5 ~{RW} (in), 6 E (in), 7 D0, 8 D1, 9 D2, 10 D3, 11 D4, 12 D5, 13 D6, 14 D7, 15 LED_A, 16 LED_K

## LED
designator VD?
LED, 3mm
footprint LED_3MM (LED 3MM)
pins: 1 A1, 2 K

## LED2
designator VD?, comment KTL0300JCW
Two-color led, 3 leads
footprint LED_2COL (two-color led)
footprint LED_2COL_SMD
pins: 1 A1, 2 K, 3 A2

## LED2x
designator VD?  (value not drawn)
Two-color led, 3 leads
footprint LED_2COL (two-color led)
footprint LED_2COL_SMD
pins: 1 A1, 2 K, 3 A2

## LED_WS2812
designator VD?, comment WS2812
footprint LED_WS2812
pins: 1 Vdd (power), 2 Dout (out), 3 Vss (power), 4 Din (in)

## LIS3DH
designator U?
Three-axis accelerometer
footprint IC_LGA16-3 (for LIS3xx accelerometers)
pins: 1 Vdd_IO (power), 2 NC, 3 NC, 4 SCL/SCK (io), 5 GND (power), 6 SDA/SDI/SDO (io), 7 SDO/SA0 (io), 8 ~{CS} (in), 9 INT2 (out), 10 RES, 11 INT1 (out), 12 GND (power), 13 ADC3 (in), 14 Vdd (power), 15 ADC2 (in), 16 ADC1 (in)

## LM317
designator U?
footprint TRANS_TO-220-V
pins: 1 Adj, 2 Vout, 3 Vin

## LM336
designator U?, comment LM336-2.5
footprint TO-92
pins: 1 A, 2 K, 3 R

## LM337
designator U?
footprint TRANS_TO-220-V
pins: 1 Adj, 2 Vin, 3 Vout

## LM2576
designator U?
Step-Down converter, 3A
footprint IC_TO-263-5 (SMD high-power, 5pin)
pins: 1 Vin, 2 Vout, 3 GND, 4 FB, 5 ~{ON}/OFF

## LM2673
designator U?
3A step-down converter
footprint IC_TO-263-7 (SMD high-power, 7pin)
pins: 1 Vout, 2 Vin, 3 Cbs, 4 GND, 5 Clim, 6 FB, 7 SStart

## LM4862M
designator U?
footprint IC_SO-8
pins: 1 SD, 2 BP, 3 IN+, 4 IN-, 5 Vc1, 6 Vdd, 7 GND, 8 Vc2

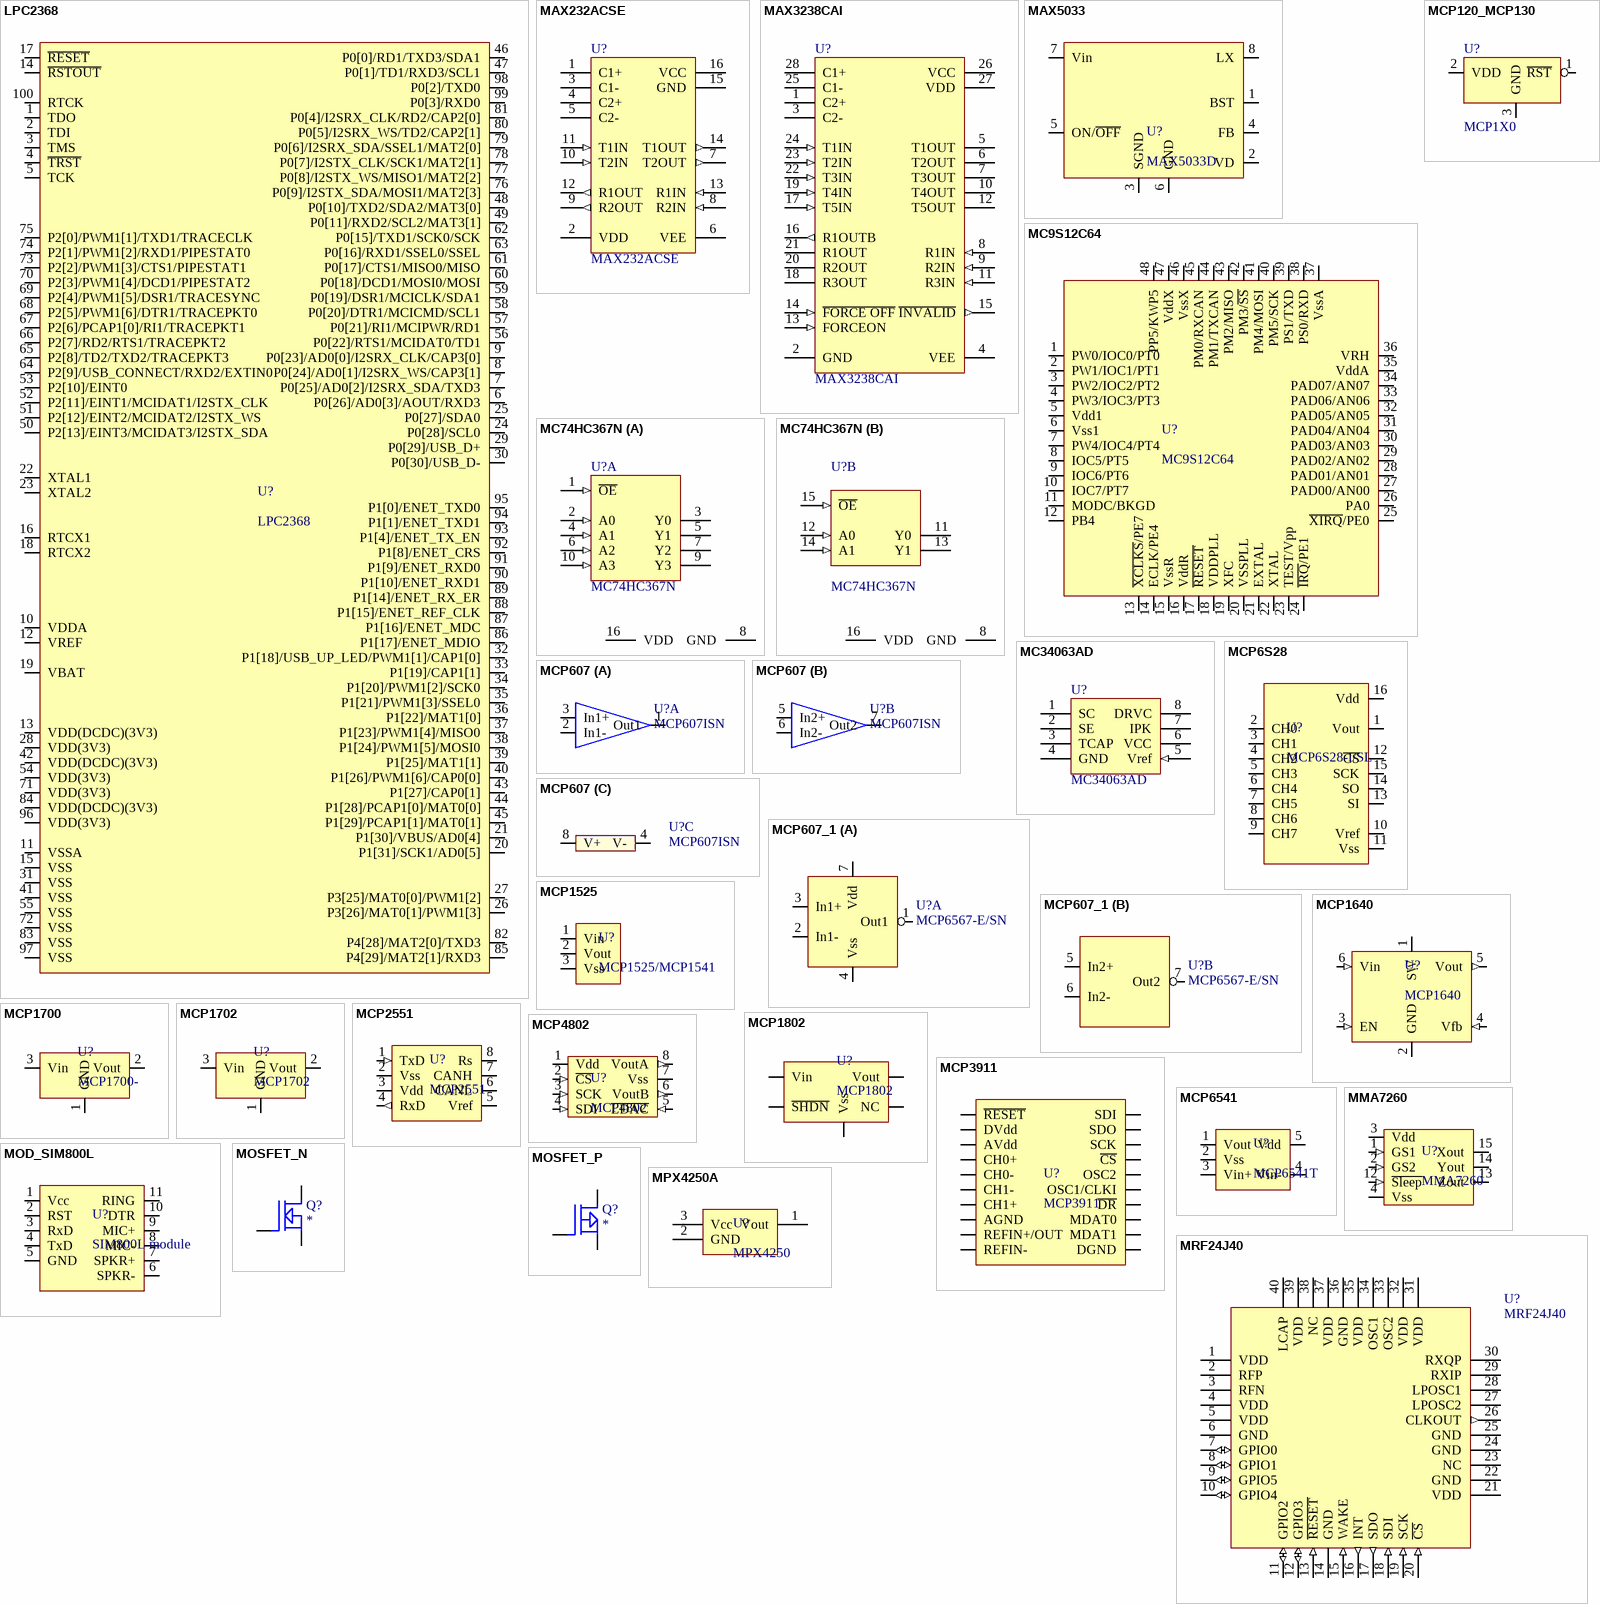
[diagram p4: symbols LPC2368 to MRF24J40]

## LPC2368
designator U?
footprint IC_LQFP-100 (DM9000/AT91SAM7X)
pins: 1 TDO (power), 2 TDI (power), 3 TMS (power), 4 ~{TRST} (power), 5 TCK (power), 6 P0[26]/AD0[3]/AOUT/RXD3 (power), 7 P0[25]/AD0[2]/I2SRX_SDA/TXD3 (power), 8 P0[24]/AD0[1]/I2SRX_WS/CAP3[1] (power), 9 P0[23]/AD0[0]/I2SRX_CLK/CAP3[0] (power), 10 VDDA (power), 11 VSSA (power), 12 VREF (power), 13 VDD(DCDC)(3V3) (power), 14 ~{RSTOUT} (power), 15 VSS (power), 16 RTCX1 (power), 17 ~{RESET} (power), 18 RTCX2 (power), 19 VBAT (power), 20 P1[31]/SCK1/AD0[5] (power), 21 P1[30]/VBUS/AD0[4] (power), 22 XTAL1 (power), 23 XTAL2 (power), 24 P0[28]/SCL0 (power), 25 P0[27]/SDA0 (power), 26 P3[26]/MAT0[1]/PWM1[3] (power), 27 P3[25]/MAT0[0]/PWM1[2] (power), 28 VDD(3V3) (power), 29 P0[29]/USB_D+ (power), 30 P0[30]/USB_D- (power), 31 VSS (power), 32 P1[18]/USB_UP_LED/PWM1[1]/CAP1[0] (power), 33 P1[19]/CAP1[1] (power), 34 P1[20]/PWM1[2]/SCK0 (power), 35 P1[21]/PWM1[3]/SSEL0 (power), 36 P1[22]/MAT1[0] (power), 37 P1[23]/PWM1[4]/MISO0 (power), 38 P1[24]/PWM1[5]/MOSI0 (power), 39 P1[25]/MAT1[1] (power), 40 P1[26]/PWM1[6]/CAP0[0] (power), 41 VSS (power), 42 VDD(DCDC)(3V3) (power), 43 P1[27]/CAP0[1] (power), 44 P1[28]/PCAP1[0]/MAT0[0] (power), 45 P1[29]/PCAP1[1]/MAT0[1] (power), 46 P0[0]/RD1/TXD3/SDA1 (power), 47 P0[1]/TD1/RXD3/SCL1 (power), 48 P0[10]/TXD2/SDA2/MAT3[0] (power), 49 P0[11]/RXD2/SCL2/MAT3[1] (power), 50 P2[13]/EINT3/MCIDAT3/I2STX_SDA (power), 51 P2[12]/EINT2/MCIDAT2/I2STX_WS (power), 52 P2[11]/EINT1/MCIDAT1/I2STX_CLK (power), 53 P2[10]/EINT0 (power), 54 VDD(3V3) (power), 55 VSS (power), 56 P0[22]/RTS1/MCIDAT0/TD1 (power), 57 P0[21]/RI1/MCIPWR/RD1 (power), 58 P0[20]/DTR1/MCICMD/SCL1 (power), 59 P0[19]/DSR1/MCICLK/SDA1 (power), 60 P0[18]/DCD1/MOSI0/MOSI (power), 61 P0[17]/CTS1/MISO0/MISO (power), 62 P0[15]/TXD1/SCK0/SCK (power), 63 P0[16]/RXD1/SSEL0/SSEL (power), 64 P2[9]/USB_CONNECT/RXD2/EXTIN0 (power), 65 P2[8]/TD2/TXD2/TRACEPKT3 (power), 66 P2[7]/RD2/RTS1/TRACEPKT2 (power), 67 P2[6]/PCAP1[0]/RI1/TRACEPKT1 (power), 68 P2[5]/PWM1[6]/DTR1/TRACEPKT0 (power), 69 P2[4]/PWM1[5]/DSR1/TRACESYNC (power), 70 P2[3]/PWM1[4]/DCD1/PIPESTAT2 (power), 71 VDD(3V3) (power), 72 VSS (power), 73 P2[2]/PWM1[3]/CTS1/PIPESTAT1 (power), 74 P2[1]/PWM1[2]/RXD1/PIPESTAT0 (power), 75 P2[0]/PWM1[1]/TXD1/TRACECLK (power), 76 P0[9]/I2STX_SDA/MOSI1/MAT2[3] (power), 77 P0[8]/I2STX_WS/MISO1/MAT2[2] (power), 78 P0[7]/I2STX_CLK/SCK1/MAT2[1] (power), 79 P0[6]/I2SRX_SDA/SSEL1/MAT2[0] (power), 80 P0[5]/I2SRX_WS/TD2/CAP2[1] (power), 81 P0[4]/I2SRX_CLK/RD2/CAP2[0] (power), 82 P4[28]/MAT2[0]/TXD3 (power), 83 VSS (power), 84 VDD(DCDC)(3V3) (power), 85 P4[29]/MAT2[1]/RXD3 (power), 86 P1[17]/ENET_MDIO (power), 87 P1[16]/ENET_MDC (power), 88 P1[15]/ENET_REF_CLK (power), 89 P1[14]/ENET_RX_ER (power), 90 P1[10]/ENET_RXD1 (power), 91 P1[9]/ENET_RXD0 (power), 92 P1[8]/ENET_CRS (power), 93 P1[4]/ENET_TX_EN (power), 94 P1[1]/ENET_TXD1 (power), 95 P1[0]/ENET_TXD0 (power), 96 VDD(3V3) (power), 97 VSS (power), 98 P0[2]/TXD0 (power), 99 P0[3]/RXD0 (power), 100 RTCK (power)

## MAX232ACSE
designator U?
+5V Powered, Multi-Channel RS-232 Driver/Receiver; Manufacturer: Maxim; Class: Communication; SubClass: Transceiver; Published: 16/01/2001; Publisher: Altium Hobart Technology Centre
footprint IC_SO-16
footprint IC_DIP-16 (DIP16)
pins: 1 C1+, 2 VDD (power), 3 C1-, 4 C2+, 5 C2-, 6 VEE (power), 7 T2OUT (out), 8 R2IN (in), 9 R2OUT (out), 10 T2IN (in), 11 T1IN (in), 12 R1OUT (out), 13 R1IN (in), 14 T1OUT (out), 15 GND (power), 16 VCC (power)

## MAX3238CAI
designator U?
V+3.0 to +5.5V, 1µA, Up to 250kbps, True RS-232 Transceiver with AutoShutdown Plus; Manufacturer: Maxim; Class: Interface; SubClass: Line Driver; Published: 16/01/2001; Publisher: Altium Hobart Technology Centre
footprint IC_SSOP28
pins: 1 C2+, 2 GND (power), 3 C2-, 4 VEE (power), 5 T1OUT (hiz), 6 T2OUT (hiz), 7 T3OUT (hiz), 8 R1IN (in), 9 R2IN (in), 10 T4OUT (hiz), 11 R3IN (in), 12 T5OUT (hiz), 13 FORCEON (in), 14 ~{FORCE OFF} (in), 15 ~{INVALID} (out), 16 R1OUTB (out), 17 T5IN (in), 18 R3OUT (hiz), 19 T4IN (in), 20 R2OUT (hiz), 21 R1OUT (hiz), 22 T3IN (in), 23 T2IN (in), 24 T1IN (in), 25 C1-, 26 VCC (power), 27 VDD (power), 28 C1+

## MAX5033
designator U?, comment MAX5033D
7.5-76V Step-down converter
footprint IC_SO-8
pins: 1 BST, 2 VD, 3 SGND, 4 FB, 5 ON/~{OFF}, 6 GND, 7 Vin, 8 LX

## MC9S12C64
designator U?
footprint IC_LQFP48 (for MC9S12C64)
pins: 1 PW0/IOC0/PT0, 2 PW1/IOC1/PT1, 3 PW2/IOC2/PT2, 4 PW3/IOC3/PT3, 5 Vdd1, 6 Vss1, 7 PW4/IOC4/PT4, 8 IOC5/PT5, 9 IOC6/PT6, 10 IOC7/PT7, 11 MODC/BKGD, 12 PB4, 13 ~{XCLKS}/PE7, 14 ECLK/PE4, 15 VssR, 16 VddR, 17 ~{RESET}, 18 VDDPLL, 19 XFC, 20 VSSPLL, 21 EXTAL, 22 XTAL, 23 TEST/Vpp, 24 ~{IRQ}/PE1, 25 ~{XIRQ}/PE0, 26 PA0, 27 PAD00/AN00, 28 PAD01/AN01, 29 PAD02/AN02, 30 PAD03/AN03, 31 PAD04/AN04, 32 PAD05/AN05, 33 PAD06/AN06, 34 PAD07/AN07, 35 VddA, 36 VRH, 37 VssA, 38 PS0/RXD, 39 PS1/TXD, 40 PM5/SCK, 41 PM4/MOSI, 42 PM3/~{SS}, 43 PM2/MISO, 44 PM1/TXCAN, 45 PM0/RXCAN, 46 VssX, 47 VddX, 48 PP5/KWP5

## MC74HC367N
designator U?
Hex 3-State Non-Inverting Buffer with Separate 2-Bit and 4-Bit Sections; Manufacturer: Motorola; Class: Logic; SubClass: Buffer/Line Driver; Published: 15/04/2002; Publisher: Altium Hobart Technology Centre
footprint IC_SO-16
pins on every part: 8 GND (power) hidden to GND, 16 VDD (power) hidden to VDD
part A pins: 1 ~{OE} (in), 2 A0 (in), 3 Y0 (hiz), 4 A1 (in), 5 Y1 (hiz), 6 A2 (in), 7 Y2 (hiz), 9 Y3 (hiz), 10 A3 (in)
part B pins: 11 Y0 (hiz), 12 A0 (in), 13 Y1 (hiz), 14 A1 (in), 15 ~{OE} (in)

## MC34063AD
designator U?
DC-to-DC Converter Control Circuit; Manufacturer: Motorola; Class: Power Management; SubClass: DC-DC Converter; Published: 15/04/2002; Publisher: Altium Hobart Technology Centre
footprint IC_SO-8
footprint IC_DIP-8 (DIP8)
pins: 1 SC (oc), 2 SE (oe), 3 TCAP, 4 GND (power), 5 Vref (in), 6 VCC (power), 7 IPK, 8 DRVC (oc)

## MCP6S28
designator U?, comment MCP6S28-I/SL
footprint IC_SO-16
pins: 1 Vout, 2 CH0, 3 CH1, 4 CH2, 5 CH3, 6 CH4, 7 CH5, 8 CH6, 9 CH7, 10 Vref, 11 Vss, 12 ~{CS}, 13 SI, 14 SO, 15 SCK, 16 Vdd

## MCP120_MCP130
designator U?, comment MCP1X0
footprint TRANS_SOT-23
pins: 1 ~{RST}, 2 VDD, 3 GND

## MCP607
designator U?, comment MCP607ISN
footprint IC_SO-8
part A pins: 1 Out1, 2 In1-, 3 In1+
part B pins: 5 In2+, 6 In2-, 7 Out2
part C pins: 4 V-, 8 V+

## MCP607_1
designator U?, comment MCP6567-E/SN
Dual, open-drain comparators
footprint IC_SO-8
part A pins: 1 Out1 (oc), 2 In1-, 3 In1+, 4 Vss (power), 7 Vdd (power)
part B pins: 5 In2+, 6 In2-, 7 Out2 (oc)

## MCP1525
designator U?, comment MCP1525/MCP1541
Low-current voltage reference
footprint TRANS_SOT-23
pins: 1 Vin, 2 Vout, 3 Vss

## MCP1640
designator U?
low-voltage step-up converter
footprint IC_SOT23-6 (for MCP1640)
pins: 1 SW, 2 GND (power), 3 EN (in), 4 Vfb (in), 5 Vout (out), 6 Vin (in)

## MCP1700
designator U?, comment MCP1700-
footprint SOT-23 (Footprint not found)
footprint IC_SOT89-MCP1700 (SOT-89 for MCP1700)
pins: 1 GND (power), 2 Vout (power), 3 Vin (power)

## MCP1702
designator U?
footprint TRANS_SOT-23
footprint IC_SOT89-MCP1700 (SOT-89 for MCP1700)
pins: 1 GND (power), 2 Vout (power), 3 Vin (power)

## MCP1802
designator U?
3.3V LDO 300mA
footprint IC_SOT23-5 (for MCP1802)
pins: 1 Vin, 2 Vss, 3 ~{SHDN}, 4 NC, 5 Vout

## MCP2551
designator U?
footprint IC_SO-8
pins: 1 TxD (in), 2 Vss (power), 3 Vdd (power), 4 RxD (out), 5 Vref, 6 CANL, 7 CANH, 8 Rs

## MCP3911
designator U?
Analog front-end
footprint IC_SSOP20 (For WM8804)
pins: 1 ~{RESET}, 2 DVdd, 3 AVdd, 4 CH0+, 5 CH0-, 6 CH1-, 7 CH1+, 8 AGND, 9 REFIN+/OUT, 10 REFIN-, 11 DGND, 12 MDAT1, 13 MDAT0, 14 ~{DR}, 15 OSC1/CLKI, 16 OSC2, 17 ~{CS}, 18 SCK, 19 SDO, 20 SDI

## MCP4802
designator U?
8/10/12-bit dual DAC
footprint IC_DIP-8 (DIP8)
pins: 1 Vdd (power), 2 ~{CS} (in), 3 SCK (in), 4 SDI (in), 5 ~{LDAC} (in), 6 VoutB (out), 7 Vss (power), 8 VoutA (out)

## MCP6541
designator U?, comment MCP6541T
Comparator
footprint IC_SOT23-5 (for MCP1802)
pins: 1 Vout, 2 Vss, 3 Vin+, 4 Vin-, 5 Vdd

## MMA7260
designator U?
3-axis accelerometer
footprint IC_QFN16-6x6 (For MMA7260)
pins: 1 GS1 (in), 2 GS2 (in), 3 Vdd (power), 4 Vss (power), 12 ~{Sleep} (in), 13 Zout, 14 Yout, 15 Xout

## MOD_SIM800L
designator U?, comment SIM800L module
footprint MISC_MOD_SIM800L (SIM800L GSM Module)
pins: 1 Vcc (power), 2 RST, 3 RxD, 4 TxD, 5 GND (power), 6 SPKR-, 7 SPKR+, 8 MIC-, 9 MIC+, 10 DTR, 11 RING

## MOSFET_N
designator Q?
N-Channel MOSFET
footprint TRANS_MSOP8
footprint TRANS_TO-220-V
pins: 1 G, 2 D, 3 S

## MOSFET_P
designator Q?
P-channel MOSFET
footprint TRANS_MSOP8
footprint TRANS_TO-220-V
pins: 1 G, 2 D, 3 S

## MPX4250A
designator U?, comment MPX4250
Absolute pressure sensor
footprint MISC_MPX4250AP (MPX4250AP pressure sensor)
pins: 1 Vout, 2 GND, 3 Vcc

## MRF24J40
designator U?
2.4GHz 802.15.4 transceiver
footprint IC_QFN40-6x6 (for MRF24J40)
pins: 1 VDD (power), 2 RFP, 3 RFN, 4 VDD (power), 5 VDD (power), 6 GND (power), 7 GPIO0 (io), 8 GPIO1 (io), 9 GPIO5 (io), 10 GPIO4 (io), 11 GPIO2 (io), 12 GPIO3 (io), 13 ~{RESET} (in), 14 GND (power), 15 WAKE (in), 16 INT (out), 17 SDO (out), 18 SDI (in), 19 SCK (in), 20 ~{CS} (in), 21 VDD (power), 22 GND (power), 23 NC, 24 GND (power), 25 GND (power), 26 CLKOUT (out), 27 LPOSC2, 28 LPOSC1, 29 RXIP, 30 RXQP, 31 VDD (power), 32 VDD (power), 33 OSC2, 34 OSC1, 35 VDD (power), 36 GND (power), 37 VDD (power), 38 NC, 39 VDD (power), 40 LCAP

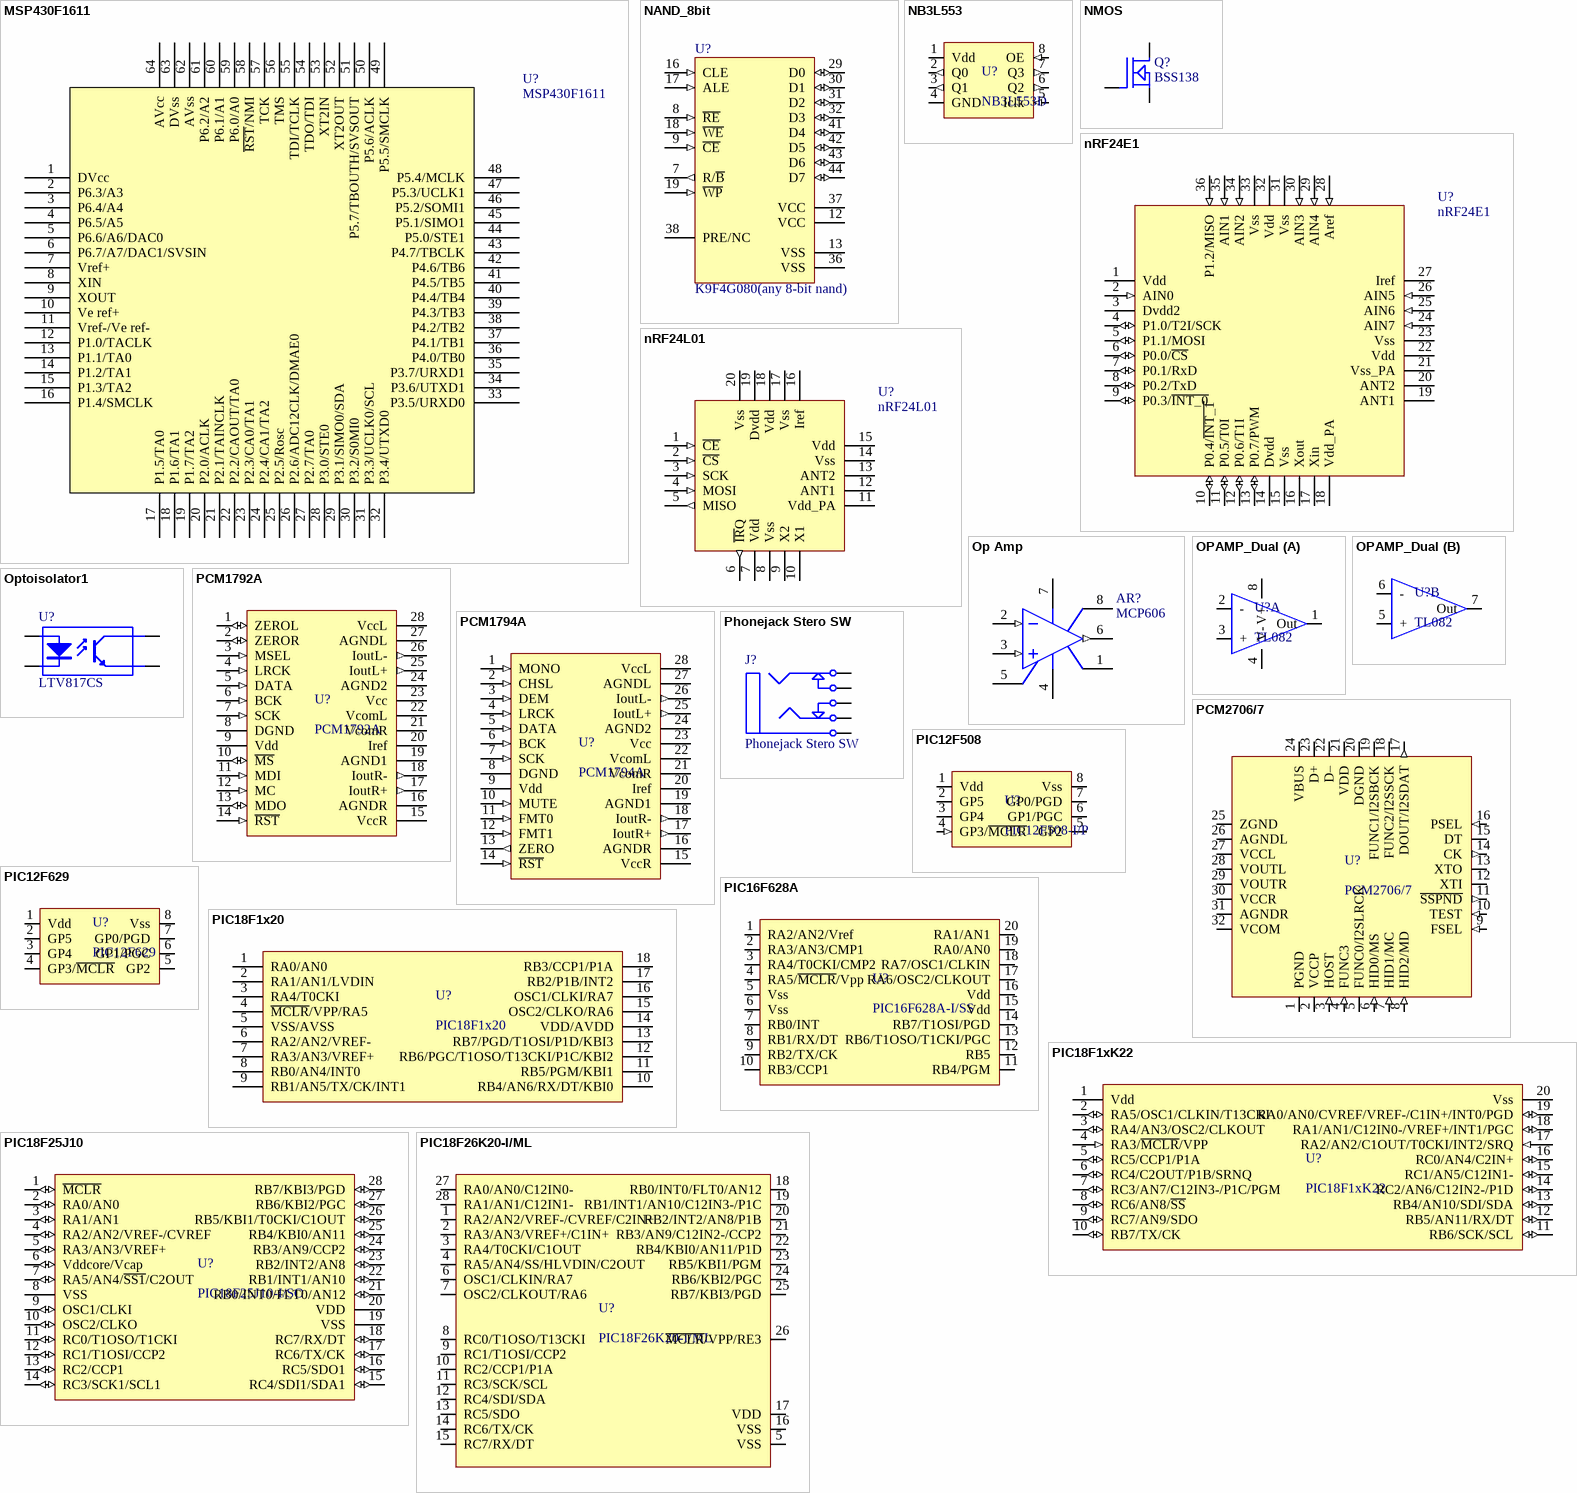
[diagram p5: symbols MSP430F1611 to PIC18F26K20-I/ML]

## MSP430F1611
designator U?
footprint IC_F-QFP10X10-G64/N
pins: 1 DVcc, 2 P6.3/A3, 3 P6.4/A4, 4 P6.5/A5, 5 P6.6/A6/DAC0, 6 P6.7/A7/DAC1/SVSIN, 7 Vref+, 8 XIN, 9 XOUT, 10 Ve ref+, 11 Vref-/Ve ref-, 12 P1.0/TACLK, 13 P1.1/TA0, 14 P1.2/TA1, 15 P1.3/TA2, 16 P1.4/SMCLK, 17 P1.5/TA0, 18 P1.6/TA1, 19 P1.7/TA2, 20 P2.0/ACLK, 21 P2.1/TAINCLK, 22 P2.2/CAOUT/TA0, 23 P2.3/CA0/TA1, 24 P2.4/CA1/TA2, 25 P2.5/Rosc, 26 P2.6/ADC12CLK/DMAE0, 27 P2.7/TA0, 28 P3.0/STE0, 29 P3.1/SIMO0/SDA, 30 P3.2/S0MI0, 31 P3.3/UCLK0/SCL, 32 P3.4/UTXD0, 33 P3.5/URXD0, 34 P3.6/UTXD1, 35 P3.7/URXD1, 36 P4.0/TB0, 37 P4.1/TB1, 38 P4.2/TB2, 39 P4.3/TB3, 40 P4.4/TB4, 41 P4.5/TB5, 42 P4.6/TB6, 43 P4.7/TBCLK, 44 P5.0/STE1, 45 P5.1/SIMO1, 46 P5.2/SOMI1, 47 P5.3/UCLK1, 48 P5.4/MCLK, 49 P5.5/SMCLK, 50 P5.6/ACLK, 51 P5.7/TBOUTH/SVSOUT, 52 XT2OUT, 53 XT2IN, 54 TDO/TDI, 55 TDI/TCLK, 56 TMS, 57 TCK, 58 ~{RST}/NMI, 59 P6.0/A0, 60 P6.1/A1, 61 P6.2/A2, 62 AVss, 63 DVss, 64 AVcc

## NAND_8bit
designator U?, comment K9F4G080(any 8-bit nand)
footprint IC_TSOP-48 (NAND flash)
pins: 7 R/~{B} (out), 8 ~{RE} (in), 9 ~{CE} (in), 12 VCC (power), 13 VSS (power), 16 CLE (in), 17 ALE (in), 18 ~{WE} (in), 19 ~{WP} (in), 29 D0 (io), 30 D1 (io), 31 D2 (io), 32 D3 (io), 36 VSS (power), 37 VCC (power), 38 PRE/NC, 41 D4 (io), 42 D5 (io), 43 D6 (io), 44 D7 (io)

## NB3L553
designator U?, comment NB3L553D
Clock Fanout buffer
footprint IC_SO-8
pins: 1 Vdd (power), 2 Q0 (out), 3 Q1 (out), 4 GND (power), 5 Iclk (in), 6 Q2 (out), 7 Q3 (out), 8 OE (in)

## NMOS
designator Q?, comment BSS138
N-MOS
footprint TRANS_SOT-23
pins: 1 G, 2 S, 3 D

## nRF24E1
designator U?
2.4GHz Transceiver with integrated 8051 microcontroller
footprint IC_QFN36-6X6 (For nRF24E1)
pins: 1 Vdd (power), 2 AIN0 (in), 3 Dvdd2 (power), 4 P1.0/T2I/SCK (io), 5 P1.1/MOSI (io), 6 P0.0/~{CS} (io), 7 P0.1/RxD (io), 8 P0.2/TxD (io), 9 P0.3/~{INT_0} (io), 10 P0.4/~{INT_1} (io), 11 P0.5/T0I (io), 12 P0.6/T1I (io), 13 P0.7/PWM (io), 14 Dvdd (power), 15 Vss (power), 16 Xout, 17 Xin, 18 Vdd_PA (power), 19 ANT1, 20 ANT2, 21 Vss_PA (power), 22 Vdd (power), 23 Vss (power), 24 AIN7 (in), 25 AIN6 (in), 26 AIN5 (in), 27 Iref, 28 Aref (in), 29 AIN4 (in), 30 AIN3 (in), 31 Vss (power), 32 Vdd (power), 33 Vss (power), 34 AIN2 (in), 35 AIN1 (in), 36 P1.2/MISO (in)

## nRF24L01
designator U?
2.4GHz Transceiver with integrated 8051 microcontroller
footprint IC_QFN20-4X4 (For nRF24L01)
pins: 1 ~{CE} (in), 2 ~{CS} (in), 3 SCK (in), 4 MOSI (in), 5 MISO (out), 6 ~{IR}Q (out), 7 Vdd (power), 8 Vss (power), 9 X2, 10 X1, 11 Vdd_PA (power), 12 ANT1, 13 ANT2, 14 Vss (power), 15 Vdd (power), 16 Iref, 17 Vss (power), 18 Vdd (power), 19 Dvdd (power), 20 Vss (power)

## Op Amp
designator AR?, comment MCP606
FET Operational Amplifier; Manufacturer: Generic Components; Published: 08/06/2000; Class: Amplifier; SubClass: Operational Amplifier
footprint IC_SO-8
footprint IC_DIP-8 (DIP8)
pins: 1 OS NUL, 2 IN- (in), 3 IN+ (in), 4 V- (power), 5 OS NUL, 6 OUT (out), 7 V+ (power), 8 TAB

## OPAMP_Dual
designator U?, comment TL082
standard dual op-amp
footprint IC_DIP-8 (DIP8)
footprint IC_SO-8
part A pins: 1 Out, 2 -, 3 +, 4 V-, 8 V+
part B pins: 5 +, 6 -, 7 Out

## Optoisolator1
designator U?, comment LTV817CS
Optoisolator; Manufacturer: Generic Components; Class: Optoelectronic; Published: 1999
footprint IC_DIP-4 (DIP4)
footprint IC_OPT-4 (For LTV-817SMD)
footprint IC_OPTO_4_SMD
pins: 1 A, 2 K, 3 E, 4 C

## PCM1792A
designator U?
footprint IC_SSOP28
pins: 1 ZEROL (io), 2 ZEROR (io), 3 MSEL (in), 4 LRCK (in), 5 DATA (in), 6 BCK (in), 7 SCK (in), 8 DGND (power), 9 Vdd (power), 10 ~{MS} (io), 11 MDI (in), 12 MC (in), 13 MDO (io), 14 ~{RST} (in), 15 VccR (power), 16 AGNDR (power), 17 IoutR+ (out), 18 IoutR- (out), 19 AGND1 (power), 20 Iref, 21 VcomR, 22 VcomL, 23 Vcc (power), 24 AGND2 (power), 25 IoutL+ (out), 26 IoutL- (out), 27 AGNDL, 28 VccL (power)

## PCM1794A
designator U?
footprint IC_SSOP28
pins: 1 MONO (in), 2 CHSL (in), 3 DEM (in), 4 LRCK (in), 5 DATA (in), 6 BCK (in), 7 SCK (in), 8 DGND (power), 9 Vdd (power), 10 MUTE (in), 11 FMT0 (in), 12 FMT1 (in), 13 ZERO (out), 14 ~{RST} (in), 15 VccR (power), 16 AGNDR (power), 17 IoutR+ (out), 18 IoutR- (out), 19 AGND1 (power), 20 Iref, 21 VcomR, 22 VcomL, 23 Vcc (power), 24 AGND2 (power), 25 IoutL+ (out), 26 IoutL- (out), 27 AGNDL, 28 VccL (power)

## PCM2706/7
designator U?
USB DAC
footprint IC_PQFP-32 (For PCM2706)
pins: 1 PGND (power), 2 VCCP (power), 3 HOST (in), 4 FUNC3 (in), 5 FUNC0/I2SLRCK (io), 6 HID0/MS (in), 7 HID1/MC (in), 8 HID2/MD (in), 9 FSEL (in), 10 TEST (in), 11 ~{SSPND} (out), 12 XTI, 13 XTO, 14 CK (out), 15 DT (io), 16 PSEL (in), 17 DOUT/I2SDAT (out), 18 FUNC2/I2SSCK (io), 19 FUNC1/I2SBCK (io), 20 DGND (power), 21 VDD (power), 22 D–, 23 D+, 24 VBUS (power), 25 ZGND (power), 26 AGNDL (power), 27 VCCL (power), 28 VOUTL, 29 VOUTR, 30 VCCR (power), 31 AGNDR (power), 32 VCOM

## Phonejack Stero SW
designator J?
3-Conductor Jack with 2 break contacts (normals) and 1 auxiliary make contact; Manufacturer: Generic Components; Class: Connector
footprint PIN5 (Footprint not found)
pins: 1 A, 2 B, 3 C, 4 D, 5 E

## PIC12F508
designator U?, comment PIC12F508-I/P
footprint IC_DIP-8 (DIP8)
pins: 1 Vdd (power), 2 GP5 (io), 3 GP4 (io), 4 GP3/~{MCLR} (in), 5 GP2 (io), 6 GP1/PGC (io), 7 GP0/PGD (io), 8 Vss

## PIC12F629
designator U?
footprint IC_SO-8
pins: 1 Vdd, 2 GP5, 3 GP4, 4 GP3/~{MCLR}, 5 GP2, 6 GP1/PGC, 7 GP0/PGD, 8 Vss

## PIC16F628A
designator U?, comment PIC16F628A-I/SS
footprint IC_SSOP20 (For WM8804)
pins: 1 RA2/AN2/Vref, 2 RA3/AN3/CMP1, 3 RA4/T0CKI/CMP2, 4 RA5/~{MCLR}/Vpp, 5 Vss, 6 Vss, 7 RB0/INT, 8 RB1/RX/DT, 9 RB2/TX/CK, 10 RB3/CCP1, 11 RB4/PGM, 12 RB5, 13 RB6/T1OSO/T1CKI/PGC, 14 RB7/T1OSI/PGD, 15 Vdd, 16 Vdd, 17 RA6/OSC2/CLKOUT, 18 RA7/OSC1/CLKIN, 19 RA0/AN0, 20 RA1/AN1

## PIC18F1x20
designator U?
8-bit microcontroller
footprint IC_SOIC-18 (For PIC18F1x20-SO)
pins: 1 RA0/AN0, 2 RA1/AN1/LVDIN, 3 RA4/T0CKI, 4 ~{MCLR}/VPP/RA5, 5 VSS/AVSS, 6 RA2/AN2/VREF-, 7 RA3/AN3/VREF+, 8 RB0/AN4/INT0, 9 RB1/AN5/TX/CK/INT1, 10 RB4/AN6/RX/DT/KBI0, 11 RB5/PGM/KBI1, 12 RB6/PGC/T1OSO/T13CKI/P1C/KBI2, 13 RB7/PGD/T1OSI/P1D/KBI3, 14 VDD/AVDD, 15 OSC2/CLKO/RA6, 16 OSC1/CLKI/RA7, 17 RB2/P1B/INT2, 18 RB3/CCP1/P1A

## PIC18F1xK22
designator U?
footprint IC_SOIC-20 (For PIC18F1xK22-SO)
pins: 1 Vdd (power), 2 RA5/OSC1/CLKIN/T13CKI (io), 3 RA4/AN3/OSC2/CLKOUT (io), 4 RA3/~{MCLR}/VPP (in), 5 RC5/CCP1/P1A (io), 6 RC4/C2OUT/P1B/SRNQ (io), 7 RC3/AN7/C12IN3-/P1C/PGM (io), 8 RC6/AN8/~{SS} (io), 9 RC7/AN9/SDO (io), 10 RB7/TX/CK (io), 11 RB6/SCK/SCL (io), 12 RB5/AN11/RX/DT (io), 13 RB4/AN10/SDI/SDA (io), 14 RC2/AN6/C12IN2-/P1D (io), 15 RC1/AN5/C12IN1- (io), 16 RC0/AN4/C2IN+ (io), 17 RA2/AN2/C1OUT/T0CKI/INT2/SRQ (in), 18 RA1/AN1/C12IN0-/VREF+/INT1/PGC (io), 19 RA0/AN0/CVREF/VREF-/C1IN+/INT0/PGD (io), 20 Vss (power)